# Altium schematic symbol library parallella_schematic_Library.SchLib: 113 symbols (part 1 of 3)
Pins are listed as number, name and electrical type; pins without a type are passive.

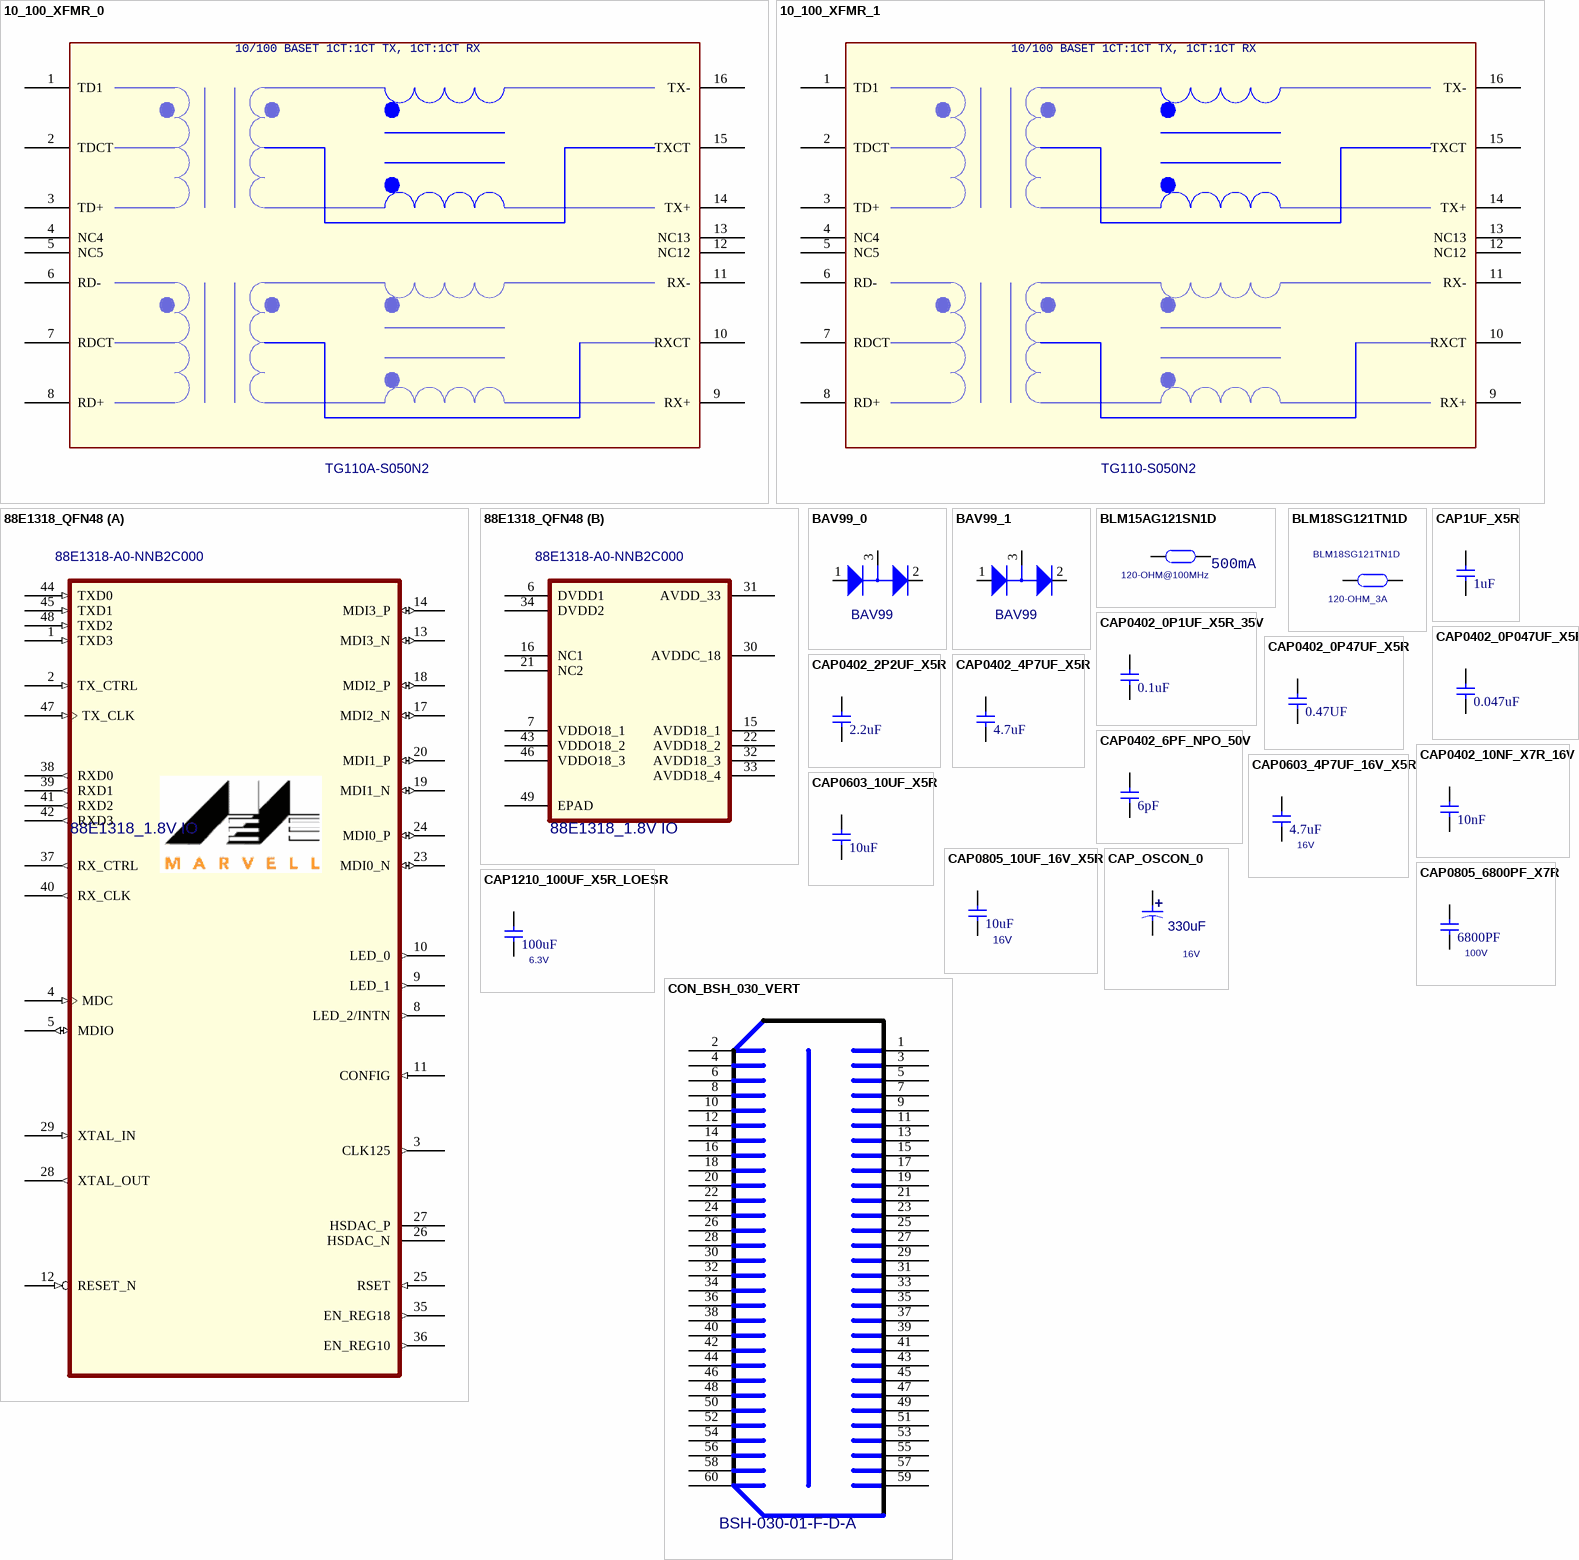
[diagram p0: symbols 10_100_XFMR_0 to CON_BSH_030_VERT]

## 10_100_XFMR_0
designator T?, comment PART_NUMBER: TG110A-S050N2  (hidden comment: 10_100_XFMR_16P)
Mfg Part No: TG110-S050NZ; DEVICE: XFMR-TG110; CLASS: IC; Mfg: HALLO
footprint XFMR16_375_50_SMT
pins: 1 TD1, 2 TDCT, 3 TD+, 4 NC4, 5 NC5, 6 RD-, 7 RDCT, 8 RD+, 9 RX+, 10 RXCT, 11 RX-, 12 NC12, 13 NC13, 14 TX+, 15 TXCT, 16 TX-
text: 10/100 BASET 1CT:1CT TX, 1CT:1CT RX

## 10_100_XFMR_1
designator T?, comment PART_NUMBER: TG110-S050N2  (hidden comment: 10_100_XFMR_16P)
Mfg Part No: TG110-S050NZ; DEVICE: XFMR-TG110; CLASS: IC; Mfg: HALLO
footprint XFMR16_375_50_SMT
pins: 1 TD1, 2 TDCT, 3 TD+, 4 NC4, 5 NC5, 6 RD-, 7 RDCT, 8 RD+, 9 RX+, 10 RXCT, 11 RX-, 12 NC12, 13 NC13, 14 TX+, 15 TXCT, 16 TX-
text: 10/100 BASET 1CT:1CT TX, 1CT:1CT RX

## 88E1318_QFN48
designator U?, comment 88E1318_1.8V IO  Vendor PN: 88E1318-A0-NNB2C000
IC, GIGE PHY, QFN48; DEVICE: 88E1318_QFN48; Vendor: MARVELL
footprint QFN48_7SQXP5PX1MMH_3P1PAD
part A pins: 1 TXD3 (in), 2 TX_CTRL (in), 3 CLK125 (out), 4 MDC (in), 5 MDIO (io), 8 LED_2/INTN (out), 9 LED_1 (out), 10 LED_0 (out), 11 CONFIG (in), 12 RESET_N (in), 13 MDI3_N (io), 14 MDI3_P (io), 17 MDI2_N (io), 18 MDI2_P (io), 19 MDI1_N (io), 20 MDI1_P (io), 23 MDI0_N (io), 24 MDI0_P (io), 25 RSET (in), 26 HSDAC_N, 27 HSDAC_P, 28 XTAL_OUT (out), 29 XTAL_IN (in), 35 EN_REG18 (out), 36 EN_REG10 (out), 37 RX_CTRL (out), 38 RXD0 (out), 39 RXD1 (out), 40 RX_CLK (out), 41 RXD2 (out), 42 RXD3 (out), 44 TXD0 (in), 45 TXD1 (in), 47 TX_CLK (in), 48 TXD2 (in)
part B pins: 6 DVDD1 (power), 7 VDDO18_1 (power), 15 AVDD18_1 (power), 16 NC1, 21 NC2, 22 AVDD18_2 (power), 30 AVDDC_18 (power), 31 AVDD_33 (power), 32 AVDD18_3 (power), 33 AVDD18_4 (power), 34 DVDD2 (power), 43 VDDO18_2 (power), 46 VDDO18_3 (power), 49 EPAD (power)

## BAV99_0
designator D?, comment BAV99
DIODE, SOT-23, BAV99, SM SIGNAL; PART_NUMBER: XXX-XXXXX-XX; MFG: FAIRCHILD; DEVICE: XXX-XXXXX-XX; MFG PART NO: BAV99
footprint SOT23
pins: 1 GND, 2 VDD, 3 SIGNAL

## BAV99_1
designator D?, comment BAV99
DIODE, SOT-23, BAV99, SM SIGNAL; PART_NUMBER: XXX-XXXXX-XX; MFG: FAIRCHILD; DEVICE: XXX-XXXXX-XX; MFG PART NO: BAV99
footprint SOT23
pins: 1 GND, 2 VDD, 3 SIGNAL

## BLM15AG121SN1D
designator FB?, comment 120-OHM@100MHz
FERRITE, BEAD, 0402, 120 OHM@ 100MHZ, 500mA, SMT; Vendor PN: BLM15AG121SN1D; Vendor: MURATA; DEVICE: BLM15AG121SN1D; MFG: MURATA; MFG PART NO: BLM15AG121SN1D
footprint FBEAD_0402
pins: 1, 2
text: 500mA

## BLM18SG121TN1D
designator FB?, comment 120-OHM_3A  Vendor PN: BLM18SG121TN1D
FERRITE, BEAD, FILTER, 0603, 3A; Vendor: MURATA; PCB Footprint: FB0603; DEVICE: BLM18SG121TN1D
footprint BEAD_0603
pins: 1, 2

## CAP1UF_X5R
designator C?, comment 1uF
CAP, 0603, 1UF, X5R, 16V; Vendor PN: C0603C105K4PAC; Vendor: KEMET; DEVICE: CAP0603; MFG PART NO: C0603C105K4PAC; MFG: KEMET
footprint C0603
pins: 1, 2

## CAP0402_0P1UF_X5R_35V
designator C?, comment 0.1uF
CAP, 0402, 0.1UF, X5R, 35V; ALT_SYMBOLS: C0402_BGA; Vendor PN: GMK105BJ104KV-F; Vendor: TAIYO YUDEN; DEVICE: CAP0402_0P1UF_X5R_35V; MFG PART NO: GMK105BJ104KV-F; MFG: TAIYO YUDEN
footprint C0402
pins: 1, 2

## CAP0402_0P047UF_X5R
designator C?, comment 0.047uF
CAP, 0402, 0.047UF, X5R, 25V; MFG PART NO: C1005X5R1E473M; MFG: TDK; DEVICE: CAP0402_0P047UF_X5R; Vendor: TDK; Vendor PN: C1005X5R1E473M
footprint C0402
pins: 1, 2

## CAP0402_0P47UF_X5R
designator C?, comment 0.47UF
CAP, 0402, 0.47UF, X5R, 16V; MFG PART NO: C1005X5R1C474K; MFG: TDK; DEVICE: CAP0402_0P47UF_X5R; ALT_SYMBOLS: C0402_BGA; Vendor: TDK; Vendor PN: C1005X5R1C474K
footprint C0402
pins: 1, 2

## CAP0402_2P2UF_X5R
designator C?, comment 2.2uF
CAP, 0402, 2.2UF, X5R, 6.3V; MFG PART NO: C1005X5R0J225M; DEVICE: CAP0402_2P2UF_X5R; MFG: TDK; ALT_SYMBOLS: C0402_BGA; Vendor: TDK; Vendor PN: C1005X5R0J225M
footprint C0402
pins: 1, 2

## CAP0402_4P7UF_X5R
designator C?, comment 4.7uF
CAP, 0402, 4.7UF, X5R, 6.3V; MFG PART NO: C1005X5R0J475K; DEVICE: CAP0402_4P7UF_X5R; MFG: TDK; ALT_SYMBOLS: C0402_BGA; Vendor: TDK; Vendor PN: C1005X5R0J475K
footprint C0402
pins: 1, 2

## CAP0402_6PF_NPO_50V
designator C?, comment 6pF
CAP, 0402, 6PF, NPO, 50V; ALT_SYMBOLS: C0402_BGA; Vendor PN: C1005COG1H060D050BA; Vendor: TDK; DEVICE: CAP0402_6PF_NPO_50V; MFG PART NO: C1005COG1H060D050BA; MFG: TDK
footprint C0402
pins: 1, 2

## CAP0402_10NF_X7R_16V
designator C?, comment 10nF
CAP, 0402, 10NF, X7R, 16V; MFG PART NO: C1005X7R1C103K; MFG: TDK; ALT_SYMBOLS: C0402_BGA; Vendor: TDK; Vendor PN: C1005X7R1C103K
footprint C0402
pins: 1, 2

## CAP0603_4P7UF_16V_X5R
designator C?, comment 4.7uF  VOLTAGE: 16V
CAP, 0603, 4.7UF, X5R, 16V; MFG PART NO: C1608X5R1C475K080AC; MFG: TDK; DEVICE: CAP0603_4P7UF_16V_X5R; Vendor: TDK; Vendor PN: C1608X5R1C475K080AC
footprint C0603
pins: 1, 2

## CAP0603_10UF_X5R
designator C?, comment 10uF
CAP, 0603, 10UF, X5R, 10V; MFG PART NO: LMK107BJ106MALTD; MFG: TAIYO YUDEN; DEVICE: CAP0603_10UF_X5R; Vendor: TAIYO YUDEN; Vendor PN: LMK107BJ106MALTD
footprint C0603
pins: 1, 2

## CAP0805_10UF_16V_X5R
designator C?, comment 10uF  VOLTAGE: 16V
CAP, 0805, 10UF, X5R, 16V; MFG PART NO: C2012X5R1C106M085AC; DEVICE: CAP0805_10UF_16V_X5R; MFG: TDK; Vendor: TDK; Vendor PN: C2012X5R1C106M085AC
footprint C0805
pins: 1, 2

## CAP0805_6800PF_X7R
designator C?, comment 6800PF  VOLTAGE: 100V
CAP, 0805, 6800PF, X7R, 100V; MFG PART NO: C2012X7R2A682KT5; DEVICE: CAP0805_6800PF_X7R; MFG: TDK; Vendor: TDK; Vendor PN: C2012X7R2A682KT5
footprint C0805
pins: 1, 2

## CAP1210_100UF_X5R_LOESR
designator C?, comment 100uF  VOLTAGE: 6.3V
CAP, 1210, 100UF, X5R, 6.3V, LOW ESR; MFG PART NO: GRM32ER60J107ME20L; DEVICE: CAP1210_100UF_X5R_LOESR; MFG: MURATA; Vendor: MURATA; Vendor PN: GRM32ER60J107ME20L
footprint C1210
pins: 1, 2

## CAP_OSCON_0
designator C?, comment 330uF  Voltage: 16V
CAP, OS-CON, 330UF, 16V, 20%, SMD; MFG PART NO: 16SVP330M; MFG: SANYO; DEVICE: CAP_OSCON_330UF; Tolerance: 20%
footprint CAP_TANTD
pins: 1, 2
text: +

## CON_BSH_030_VERT
designator J?, comment BSH-030-01-F-D-A
Vendor: SAMTEC; DEVICE: CON_BSH_030_VERT; Vendor PN: BSH-030-01-F-D-A
footprint CONN_BSH60P_13P59X25P88_P5P_V
pins: 1 01, 2 02, 3 03, 4 04, 5 05, 6 06, 7 07, 8 08, 9 09, 10, 11, 12, 13, 14, 15, 16, 17, 18, 19, 20, 21, 22, 23, 24, 25, 26, 27, 28, 29, 30, 31, 32, 33, 34, 35, 36, 37, 38, 39, 40, 41, 42, 43, 44, 45, 46, 47, 48, 49, 50, 51, 52, 53, 54, 55, 56, 57, 58, 59, 60

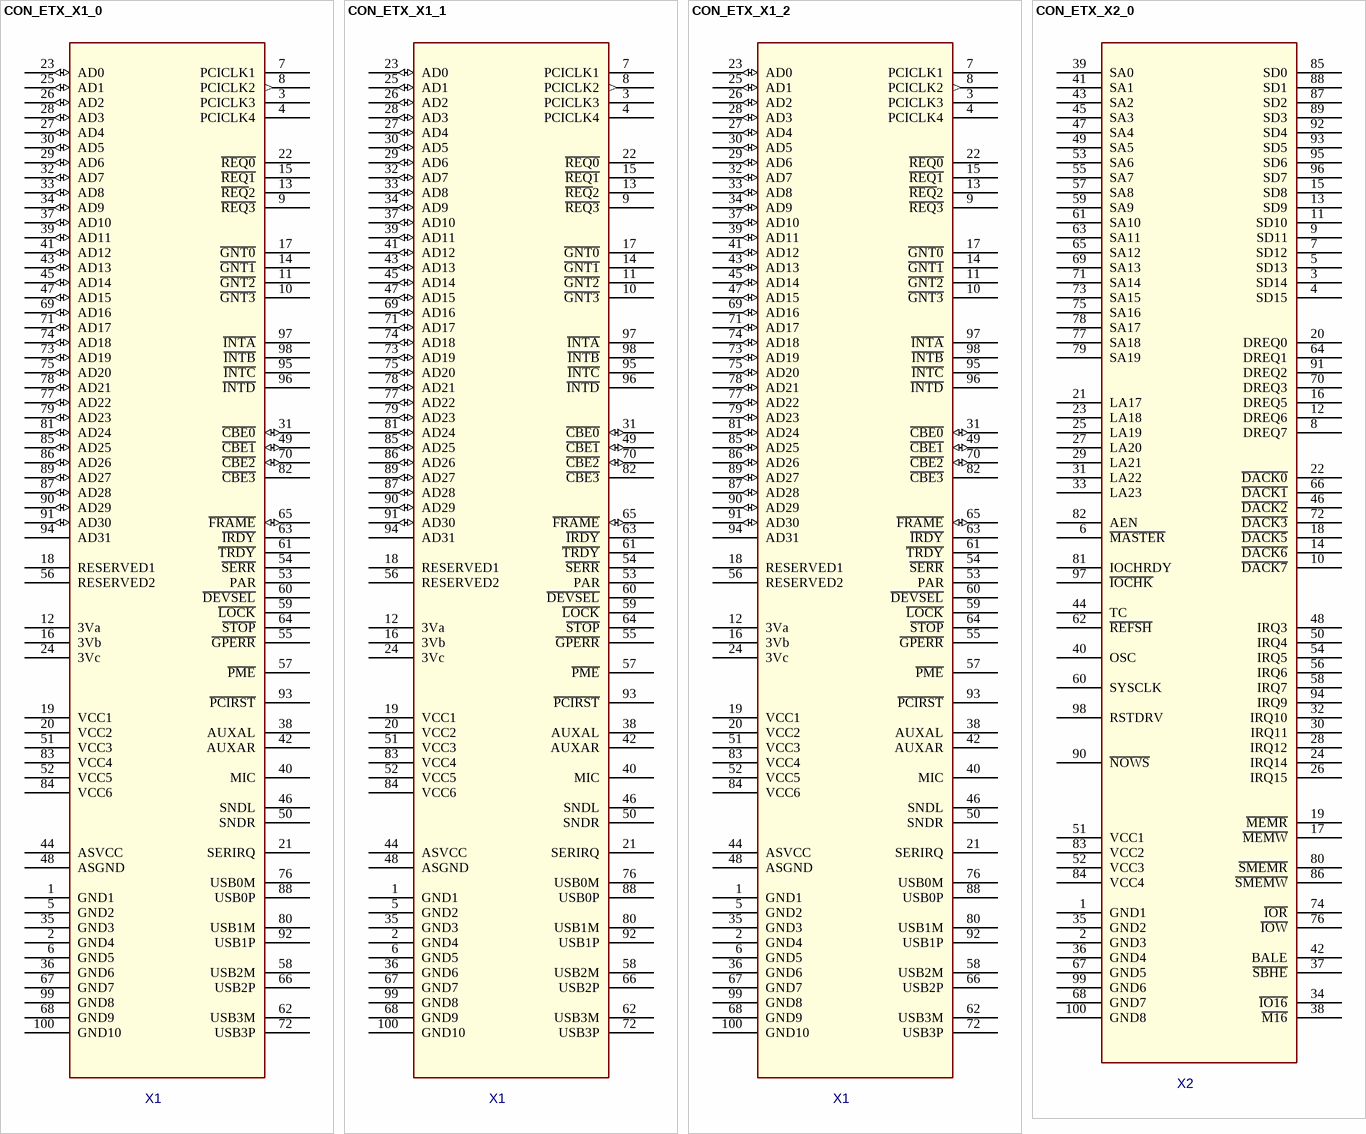
[diagram p1: symbols CON_ETX_X1_0 to CON_ETX_X2_0]

## CON_ETX_X1_0
designator P?, comment X1
CONN, 100POS STACK FEM 0.6MM; Part Number: 2101188A; MFG PART NO: FX8-100S-SV; MFG: HIROSE; DEVICE: CN000231; PART_NUMBER: CN000231
footprint conn_2x50_224_23p6
pins: 1 GND1 (power), 2 GND4 (power), 3 PCICLK3, 4 PCICLK4, 5 GND2 (power), 6 GND5 (power), 7 PCICLK1, 8 PCICLK2 (out), 9 ~{REQ3}, 10 ~{GNT3}, 11 ~{GNT2}, 12 3Va (power), 13 ~{REQ}2, 14 ~{GNT1}, 15 ~{REQ1}, 16 3Vb (power), 17 ~{GNT0}, 18 RESERVED1, 19 VCC1 (power), 20 VCC2 (power), 21 SERIRQ, 22 ~{REQ0}, 23 AD0 (io), 24 3Vc (power), 25 AD1 (io), 26 AD2 (io), 27 AD4 (io), 28 AD3 (io), 29 AD6 (io), 30 AD5 (io), 31 ~{CBE0} (io), 32 AD7 (io), 33 AD8 (io), 34 AD9 (io), 35 GND3 (power), 36 GND6 (power), 37 AD10 (io), 38 AUXAL, 39 AD11 (io), 40 MIC, 41 AD12 (io), 42 AUXAR, 43 AD13 (io), 44 ASVCC, 45 AD14 (io), 46 SNDL, 47 AD15 (io), 48 ASGND, 49 ~{CBE1} (io), 50 SNDR, 51 VCC3 (power), 52 VCC5 (power), 53 PAR, 54 ~{SERR}, 55 ~{GPERR}, 56 RESERVED2, 57 ~{PME}, 58 USB2M, 59 ~{LOCK}, 60 ~{DEVSEL}, 61 ~{TRDY}, 62 USB3M, 63 ~{IRDY}, 64 ~{STOP}, 65 ~{FRAME} (io), 66 USB2P, 67 GND7 (power), 68 GND9 (power), 69 AD16 (io), 70 ~{CBE2} (io), 71 AD17 (io), 72 USB3P, 73 AD19 (io), 74 AD18 (io), 75 AD20 (io), 76 USB0M, 77 AD22 (io), 78 AD21 (io), 79 AD23 (io), 80 USB1M, 81 AD24 (io), 82 ~{CBE3}, 83 VCC4 (power), 84 VCC6 (power), 85 AD25 (io), 86 AD26 (io), 87 AD28 (io), 88 USB0P, 89 AD27 (io), 90 AD29 (io), 91 AD30 (io), 92 USB1P, 93 ~{PCIRST}, 94 AD31, 95 ~{INTC}, 96 ~{INTD}, 97 ~{INTA}, 98 ~{INTB}, 99 GND8 (power), 100 GND10 (power)

## CON_ETX_X1_1
designator P?, comment X1
CONN, 100POS STACK FEM 0.6MM; Part Number: 2101188A; MFG PART NO: FX8-100S-SV; MFG: HIROSE; DEVICE: CN000231; PART_NUMBER: CN000231
footprint conn_2x50_224_23p6
pins: 1 GND1 (power), 2 GND4 (power), 3 PCICLK3, 4 PCICLK4, 5 GND2 (power), 6 GND5 (power), 7 PCICLK1, 8 PCICLK2 (out), 9 ~{REQ3}, 10 ~{GNT3}, 11 ~{GNT2}, 12 3Va (power), 13 ~{REQ}2, 14 ~{GNT1}, 15 ~{REQ1}, 16 3Vb (power), 17 ~{GNT0}, 18 RESERVED1, 19 VCC1 (power), 20 VCC2 (power), 21 SERIRQ, 22 ~{REQ0}, 23 AD0 (io), 24 3Vc (power), 25 AD1 (io), 26 AD2 (io), 27 AD4 (io), 28 AD3 (io), 29 AD6 (io), 30 AD5 (io), 31 ~{CBE0} (io), 32 AD7 (io), 33 AD8 (io), 34 AD9 (io), 35 GND3 (power), 36 GND6 (power), 37 AD10 (io), 38 AUXAL, 39 AD11 (io), 40 MIC, 41 AD12 (io), 42 AUXAR, 43 AD13 (io), 44 ASVCC, 45 AD14 (io), 46 SNDL, 47 AD15 (io), 48 ASGND, 49 ~{CBE1} (io), 50 SNDR, 51 VCC3 (power), 52 VCC5 (power), 53 PAR, 54 ~{SERR}, 55 ~{GPERR}, 56 RESERVED2, 57 ~{PME}, 58 USB2M, 59 ~{LOCK}, 60 ~{DEVSEL}, 61 ~{TRDY}, 62 USB3M, 63 ~{IRDY}, 64 ~{STOP}, 65 ~{FRAME} (io), 66 USB2P, 67 GND7 (power), 68 GND9 (power), 69 AD16 (io), 70 ~{CBE2} (io), 71 AD17 (io), 72 USB3P, 73 AD19 (io), 74 AD18 (io), 75 AD20 (io), 76 USB0M, 77 AD22 (io), 78 AD21 (io), 79 AD23 (io), 80 USB1M, 81 AD24 (io), 82 ~{CBE3}, 83 VCC4 (power), 84 VCC6 (power), 85 AD25 (io), 86 AD26 (io), 87 AD28 (io), 88 USB0P, 89 AD27 (io), 90 AD29 (io), 91 AD30 (io), 92 USB1P, 93 ~{PCIRST}, 94 AD31, 95 ~{INTC}, 96 ~{INTD}, 97 ~{INTA}, 98 ~{INTB}, 99 GND8 (power), 100 GND10 (power)

## CON_ETX_X1_2
designator P?, comment X1
CONN, 100POS STACK FEM 0.6MM; MFG PART NO: FX8-100S-SV; MFG: HIROSE; DEVICE: CN000231; PART_NUMBER: CN000231
footprint conn_2x50_224_23p6
pins: 1 GND1 (power), 2 GND4 (power), 3 PCICLK3, 4 PCICLK4, 5 GND2 (power), 6 GND5 (power), 7 PCICLK1, 8 PCICLK2 (out), 9 ~{REQ3}, 10 ~{GNT3}, 11 ~{GNT2}, 12 3Va (power), 13 ~{REQ}2, 14 ~{GNT1}, 15 ~{REQ1}, 16 3Vb (power), 17 ~{GNT0}, 18 RESERVED1, 19 VCC1 (power), 20 VCC2 (power), 21 SERIRQ, 22 ~{REQ0}, 23 AD0 (io), 24 3Vc (power), 25 AD1 (io), 26 AD2 (io), 27 AD4 (io), 28 AD3 (io), 29 AD6 (io), 30 AD5 (io), 31 ~{CBE0} (io), 32 AD7 (io), 33 AD8 (io), 34 AD9 (io), 35 GND3 (power), 36 GND6 (power), 37 AD10 (io), 38 AUXAL, 39 AD11 (io), 40 MIC, 41 AD12 (io), 42 AUXAR, 43 AD13 (io), 44 ASVCC, 45 AD14 (io), 46 SNDL, 47 AD15 (io), 48 ASGND, 49 ~{CBE1} (io), 50 SNDR, 51 VCC3 (power), 52 VCC5 (power), 53 PAR, 54 ~{SERR}, 55 ~{GPERR}, 56 RESERVED2, 57 ~{PME}, 58 USB2M, 59 ~{LOCK}, 60 ~{DEVSEL}, 61 ~{TRDY}, 62 USB3M, 63 ~{IRDY}, 64 ~{STOP}, 65 ~{FRAME} (io), 66 USB2P, 67 GND7 (power), 68 GND9 (power), 69 AD16 (io), 70 ~{CBE2} (io), 71 AD17 (io), 72 USB3P, 73 AD19 (io), 74 AD18 (io), 75 AD20 (io), 76 USB0M, 77 AD22 (io), 78 AD21 (io), 79 AD23 (io), 80 USB1M, 81 AD24 (io), 82 ~{CBE3}, 83 VCC4 (power), 84 VCC6 (power), 85 AD25 (io), 86 AD26 (io), 87 AD28 (io), 88 USB0P, 89 AD27 (io), 90 AD29 (io), 91 AD30 (io), 92 USB1P, 93 ~{PCIRST}, 94 AD31, 95 ~{INTC}, 96 ~{INTD}, 97 ~{INTA}, 98 ~{INTB}, 99 GND8 (power), 100 GND10 (power)

## CON_ETX_X2_0
designator P?, comment X2
CONN, 100POS STACK FEM 0.6MM; Part Number: xxxxx; MFG PART NO: FX8-100S-SV; MFG: HIROSE
footprint CON_FX8-100S
pins: 1 GND1 (power), 2 GND3 (power), 3 SD14, 4 SD15, 5 SD13, 6 ~{MASTER}, 7 SD12, 8 DREQ7, 9 SD11, 10 ~{DACK7}, 11 SD10, 12 DREQ6, 13 SD9, 14 ~{DACK6}, 15 SD8, 16 DREQ5, 17 ~{MEMW}, 18 ~{DACK5}, 19 ~{MEMR}, 20 DREQ0, 21 LA17, 22 ~{DACK0}, 23 LA18, 24 IRQ14, 25 LA19, 26 IRQ15, 27 LA20, 28 IRQ12, 29 LA21, 30 IRQ11, 31 LA22, 32 IRQ10, 33 LA23, 34 ~{IO16}, 35 GND2 (power), 36 GND4 (power), 37 ~{SBHE}, 38 ~{M16}, 39 SA0, 40 OSC, 41 SA1, 42 BALE, 43 SA2, 44 TC, 45 SA3, 46 ~{DACK2}, 47 SA4, 48 IRQ3, 49 SA5, 50 IRQ4, 51 VCC1 (power), 52 VCC3 (power), 53 SA6, 54 IRQ5, 55 SA7, 56 IRQ6, 57 SA8, 58 IRQ7, 59 SA9, 60 SYSCLK, 61 SA10, 62 ~{REFSH}, 63 SA11, 64 DREQ1, 65 SA12, 66 ~{DACK1}, 67 GND5 (power), 68 GND7 (power), 69 SA13, 70 DREQ3, 71 SA14, 72 ~{DACK3}, 73 SA15, 74 ~{IOR}, 75 SA16, 76 ~{IOW}, 77 SA18, 78 SA17, 79 SA19, 80 ~{SMEMR}, 81 IOCHRDY, 82 AEN, 83 VCC2 (power), 84 VCC4 (power), 85 SD0, 86 ~{SMEMW}, 87 SD2, 88 SD1, 89 SD3, 90 ~{NOWS}, 91 DREQ2, 92 SD4, 93 SD5, 94 IRQ9, 95 SD6, 96 SD7, 97 ~{IOCHK}, 98 RSTDRV, 99 GND6 (power), 100 GND8 (power)

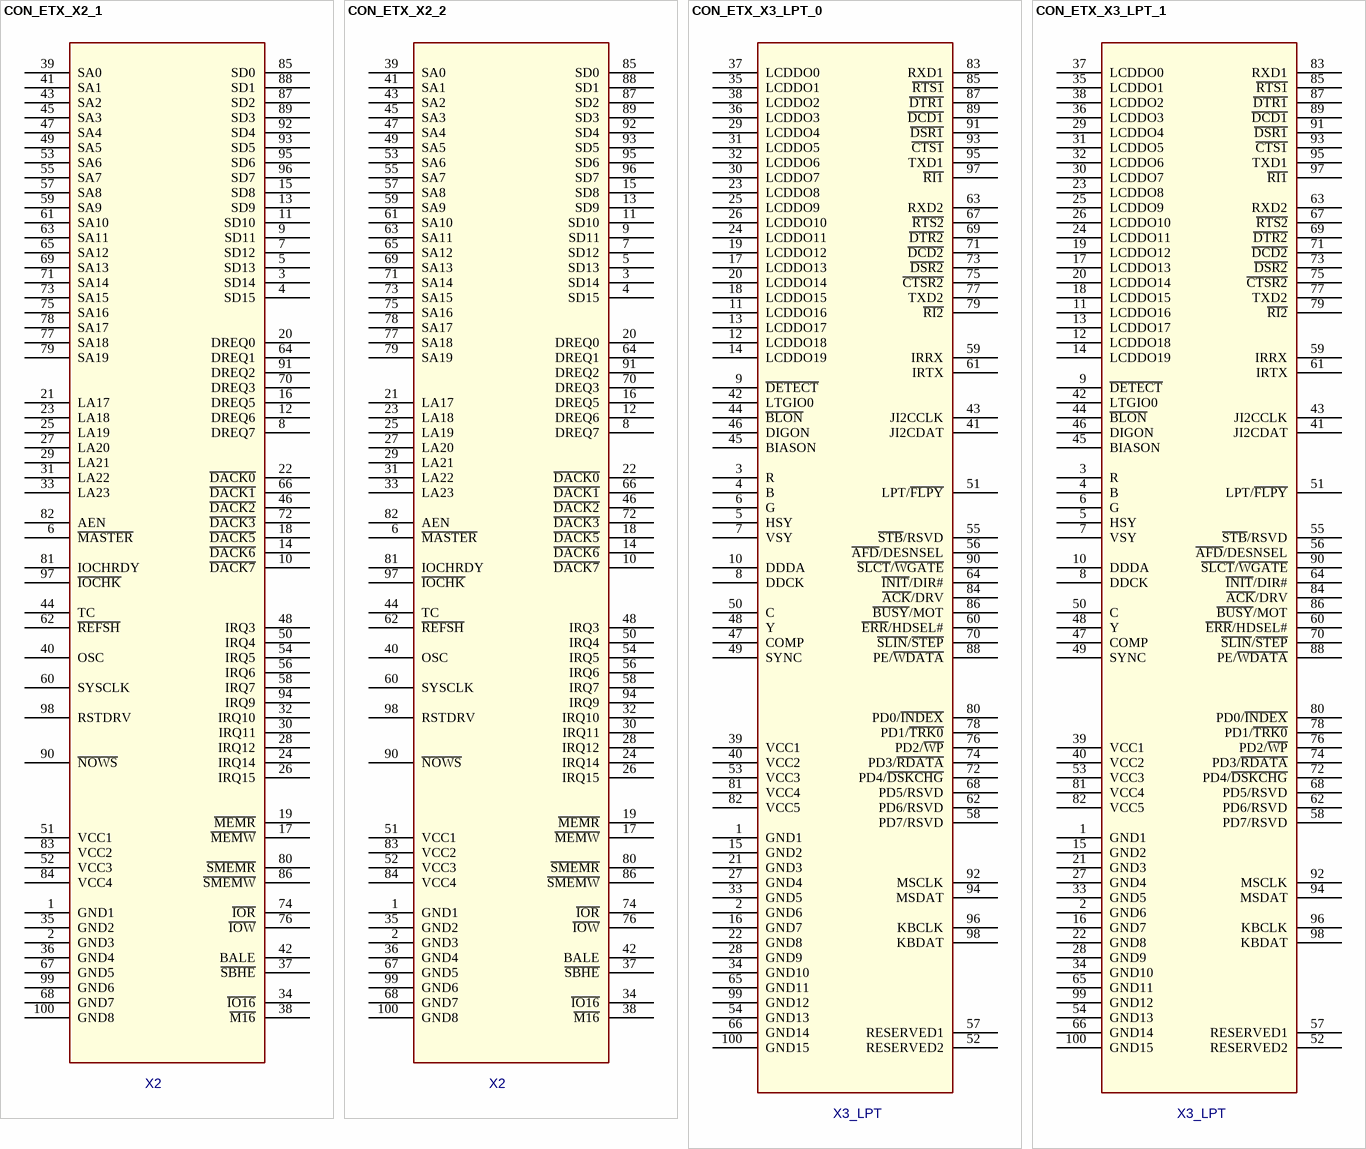
[diagram p2: symbols CON_ETX_X2_1 to CON_ETX_X3_LPT_1]

## CON_ETX_X2_1
designator P?, comment X2
CONN, 100POS STACK FEM 0.6MM; MFG PART NO: FX8-100S-SV; MFG: HIROSE; DEVICE: CN000231; PART_NUMBER: CN000231
footprint conn_2x50_224_23p6
pins: 1 GND1 (power), 2 GND3 (power), 3 SD14, 4 SD15, 5 SD13, 6 ~{MASTER}, 7 SD12, 8 DREQ7, 9 SD11, 10 ~{DACK7}, 11 SD10, 12 DREQ6, 13 SD9, 14 ~{DACK6}, 15 SD8, 16 DREQ5, 17 ~{MEMW}, 18 ~{DACK5}, 19 ~{MEMR}, 20 DREQ0, 21 LA17, 22 ~{DACK0}, 23 LA18, 24 IRQ14, 25 LA19, 26 IRQ15, 27 LA20, 28 IRQ12, 29 LA21, 30 IRQ11, 31 LA22, 32 IRQ10, 33 LA23, 34 ~{IO16}, 35 GND2 (power), 36 GND4 (power), 37 ~{SBHE}, 38 ~{M16}, 39 SA0, 40 OSC, 41 SA1, 42 BALE, 43 SA2, 44 TC, 45 SA3, 46 ~{DACK2}, 47 SA4, 48 IRQ3, 49 SA5, 50 IRQ4, 51 VCC1 (power), 52 VCC3 (power), 53 SA6, 54 IRQ5, 55 SA7, 56 IRQ6, 57 SA8, 58 IRQ7, 59 SA9, 60 SYSCLK, 61 SA10, 62 ~{REFSH}, 63 SA11, 64 DREQ1, 65 SA12, 66 ~{DACK1}, 67 GND5 (power), 68 GND7 (power), 69 SA13, 70 DREQ3, 71 SA14, 72 ~{DACK3}, 73 SA15, 74 ~{IOR}, 75 SA16, 76 ~{IOW}, 77 SA18, 78 SA17, 79 SA19, 80 ~{SMEMR}, 81 IOCHRDY, 82 AEN, 83 VCC2 (power), 84 VCC4 (power), 85 SD0, 86 ~{SMEMW}, 87 SD2, 88 SD1, 89 SD3, 90 ~{NOWS}, 91 DREQ2, 92 SD4, 93 SD5, 94 IRQ9, 95 SD6, 96 SD7, 97 ~{IOCHK}, 98 RSTDRV, 99 GND6 (power), 100 GND8 (power)

## CON_ETX_X2_2
designator P?, comment X2
CONN, 100POS STACK FEM 0.6MM; MFG PART NO: FX8-100S-SV; MFG: HIROSE; DEVICE: CN000231; PART_NUMBER: CN000231
footprint conn_2x50_224_23p6
pins: 1 GND1 (power), 2 GND3 (power), 3 SD14, 4 SD15, 5 SD13, 6 ~{MASTER}, 7 SD12, 8 DREQ7, 9 SD11, 10 ~{DACK7}, 11 SD10, 12 DREQ6, 13 SD9, 14 ~{DACK6}, 15 SD8, 16 DREQ5, 17 ~{MEMW}, 18 ~{DACK5}, 19 ~{MEMR}, 20 DREQ0, 21 LA17, 22 ~{DACK0}, 23 LA18, 24 IRQ14, 25 LA19, 26 IRQ15, 27 LA20, 28 IRQ12, 29 LA21, 30 IRQ11, 31 LA22, 32 IRQ10, 33 LA23, 34 ~{IO16}, 35 GND2 (power), 36 GND4 (power), 37 ~{SBHE}, 38 ~{M16}, 39 SA0, 40 OSC, 41 SA1, 42 BALE, 43 SA2, 44 TC, 45 SA3, 46 ~{DACK2}, 47 SA4, 48 IRQ3, 49 SA5, 50 IRQ4, 51 VCC1 (power), 52 VCC3 (power), 53 SA6, 54 IRQ5, 55 SA7, 56 IRQ6, 57 SA8, 58 IRQ7, 59 SA9, 60 SYSCLK, 61 SA10, 62 ~{REFSH}, 63 SA11, 64 DREQ1, 65 SA12, 66 ~{DACK1}, 67 GND5 (power), 68 GND7 (power), 69 SA13, 70 DREQ3, 71 SA14, 72 ~{DACK3}, 73 SA15, 74 ~{IOR}, 75 SA16, 76 ~{IOW}, 77 SA18, 78 SA17, 79 SA19, 80 ~{SMEMR}, 81 IOCHRDY, 82 AEN, 83 VCC2 (power), 84 VCC4 (power), 85 SD0, 86 ~{SMEMW}, 87 SD2, 88 SD1, 89 SD3, 90 ~{NOWS}, 91 DREQ2, 92 SD4, 93 SD5, 94 IRQ9, 95 SD6, 96 SD7, 97 ~{IOCHK}, 98 RSTDRV, 99 GND6 (power), 100 GND8 (power)

## CON_ETX_X3_LPT_0
designator P?, comment X3_LPT
CONN, 100POS STACK FEM 0.6MM; MFG PART NO: FX8-100S-SV; MFG: HIROSE; DEVICE: CN000231; PART_NUMBER: CN000231
footprint conn_2x50_224_23p6
pins: 1 GND1 (power), 2 GND6 (power), 3 R, 4 B, 5 HSY, 6 G, 7 VSY, 8 DDCK, 9 ~{DETECT}, 10 DDDA, 11 LCDDO16, 12 LCDDO18, 13 LCDDO17, 14 LCDDO19, 15 GND2 (power), 16 GND7 (power), 17 LCDDO13, 18 LCDDO15, 19 LCDDO12, 20 LCDDO14, 21 GND3 (power), 22 GND8 (power), 23 LCDDO8, 24 LCDDO11, 25 LCDDO9, 26 LCDDO10, 27 GND4 (power), 28 GND9 (power), 29 LCDDO4, 30 LCDDO7, 31 LCDDO5, 32 LCDDO6, 33 GND5 (power), 34 GND10 (power), 35 LCDDO1, 36 LCDDO3, 37 LCDDO0, 38 LCDDO2, 39 VCC1 (power), 40 VCC2 (power), 41 JI2CDAT, 42 LTGIO0, 43 JI2CCLK, 44 ~{BLON}, 45 BIASON, 46 DIGON, 47 COMP, 48 Y, 49 SYNC, 50 C, 51 LPT/~{FLPY}, 52 RESERVED2, 53 VCC3 (power), 54 GND13 (power), 55 ~{STB}/RSVD, 56 ~{AFD}/DESNSEL, 57 RESERVED1, 58 PD7/RSVD, 59 IRRX, 60 ~{ERR}/HDSEL#, 61 IRTX, 62 PD6/RSVD, 63 RXD2, 64 ~{INIT}/DIR#, 65 GND11 (power), 66 GND14 (power), 67 ~{RTS2}, 68 PD5/RSVD, 69 ~{DTR2}, 70 ~{SLIN}/~{STEP}, 71 ~{DCD2}, 72 PD4/~{DSKCHG}, 73 ~{DSR2}, 74 PD3/~{RDATA}, 75 ~{CTSR2}, 76 PD2/~{WP}, 77 TXD2, 78 PD1/~{TRK0}, 79 ~{RI2}, 80 PD0/~{INDEX}, 81 VCC4 (power), 82 VCC5 (power), 83 RXD1, 84 ~{ACK}/DRV, 85 ~{RTS1}, 86 ~{BUSY}/MOT, 87 ~{DTR1}, 88 PE/~{WDATA}, 89 ~{DCD1}, 90 ~{SLCT}/~{WGATE}, 91 ~{DSR1}, 92 MSCLK, 93 ~{CTS1}, 94 MSDAT, 95 TXD1, 96 KBCLK, 97 ~{RI1}, 98 KBDAT, 99 GND12 (power), 100 GND15 (power)

## CON_ETX_X3_LPT_1
designator P?, comment X3_LPT
CONN, 100POS STACK FEM 0.6MM; MFG PART NO: FX8-100S-SV; MFG: HIROSE; DEVICE: CN000231; PART_NUMBER: CN000231
footprint conn_2x50_224_23p6
pins: 1 GND1 (power), 2 GND6 (power), 3 R, 4 B, 5 HSY, 6 G, 7 VSY, 8 DDCK, 9 ~{DETECT}, 10 DDDA, 11 LCDDO16, 12 LCDDO18, 13 LCDDO17, 14 LCDDO19, 15 GND2 (power), 16 GND7 (power), 17 LCDDO13, 18 LCDDO15, 19 LCDDO12, 20 LCDDO14, 21 GND3 (power), 22 GND8 (power), 23 LCDDO8, 24 LCDDO11, 25 LCDDO9, 26 LCDDO10, 27 GND4 (power), 28 GND9 (power), 29 LCDDO4, 30 LCDDO7, 31 LCDDO5, 32 LCDDO6, 33 GND5 (power), 34 GND10 (power), 35 LCDDO1, 36 LCDDO3, 37 LCDDO0, 38 LCDDO2, 39 VCC1 (power), 40 VCC2 (power), 41 JI2CDAT, 42 LTGIO0, 43 JI2CCLK, 44 ~{BLON}, 45 BIASON, 46 DIGON, 47 COMP, 48 Y, 49 SYNC, 50 C, 51 LPT/~{FLPY}, 52 RESERVED2, 53 VCC3 (power), 54 GND13 (power), 55 ~{STB}/RSVD, 56 ~{AFD}/DESNSEL, 57 RESERVED1, 58 PD7/RSVD, 59 IRRX, 60 ~{ERR}/HDSEL#, 61 IRTX, 62 PD6/RSVD, 63 RXD2, 64 ~{INIT}/DIR#, 65 GND11 (power), 66 GND14 (power), 67 ~{RTS2}, 68 PD5/RSVD, 69 ~{DTR2}, 70 ~{SLIN}/~{STEP}, 71 ~{DCD2}, 72 PD4/~{DSKCHG}, 73 ~{DSR2}, 74 PD3/~{RDATA}, 75 ~{CTSR2}, 76 PD2/~{WP}, 77 TXD2, 78 PD1/~{TRK0}, 79 ~{RI2}, 80 PD0/~{INDEX}, 81 VCC4 (power), 82 VCC5 (power), 83 RXD1, 84 ~{ACK}/DRV, 85 ~{RTS1}, 86 ~{BUSY}/MOT, 87 ~{DTR1}, 88 PE/~{WDATA}, 89 ~{DCD1}, 90 ~{SLCT}/~{WGATE}, 91 ~{DSR1}, 92 MSCLK, 93 ~{CTS1}, 94 MSDAT, 95 TXD1, 96 KBCLK, 97 ~{RI1}, 98 KBDAT, 99 GND12 (power), 100 GND15 (power)

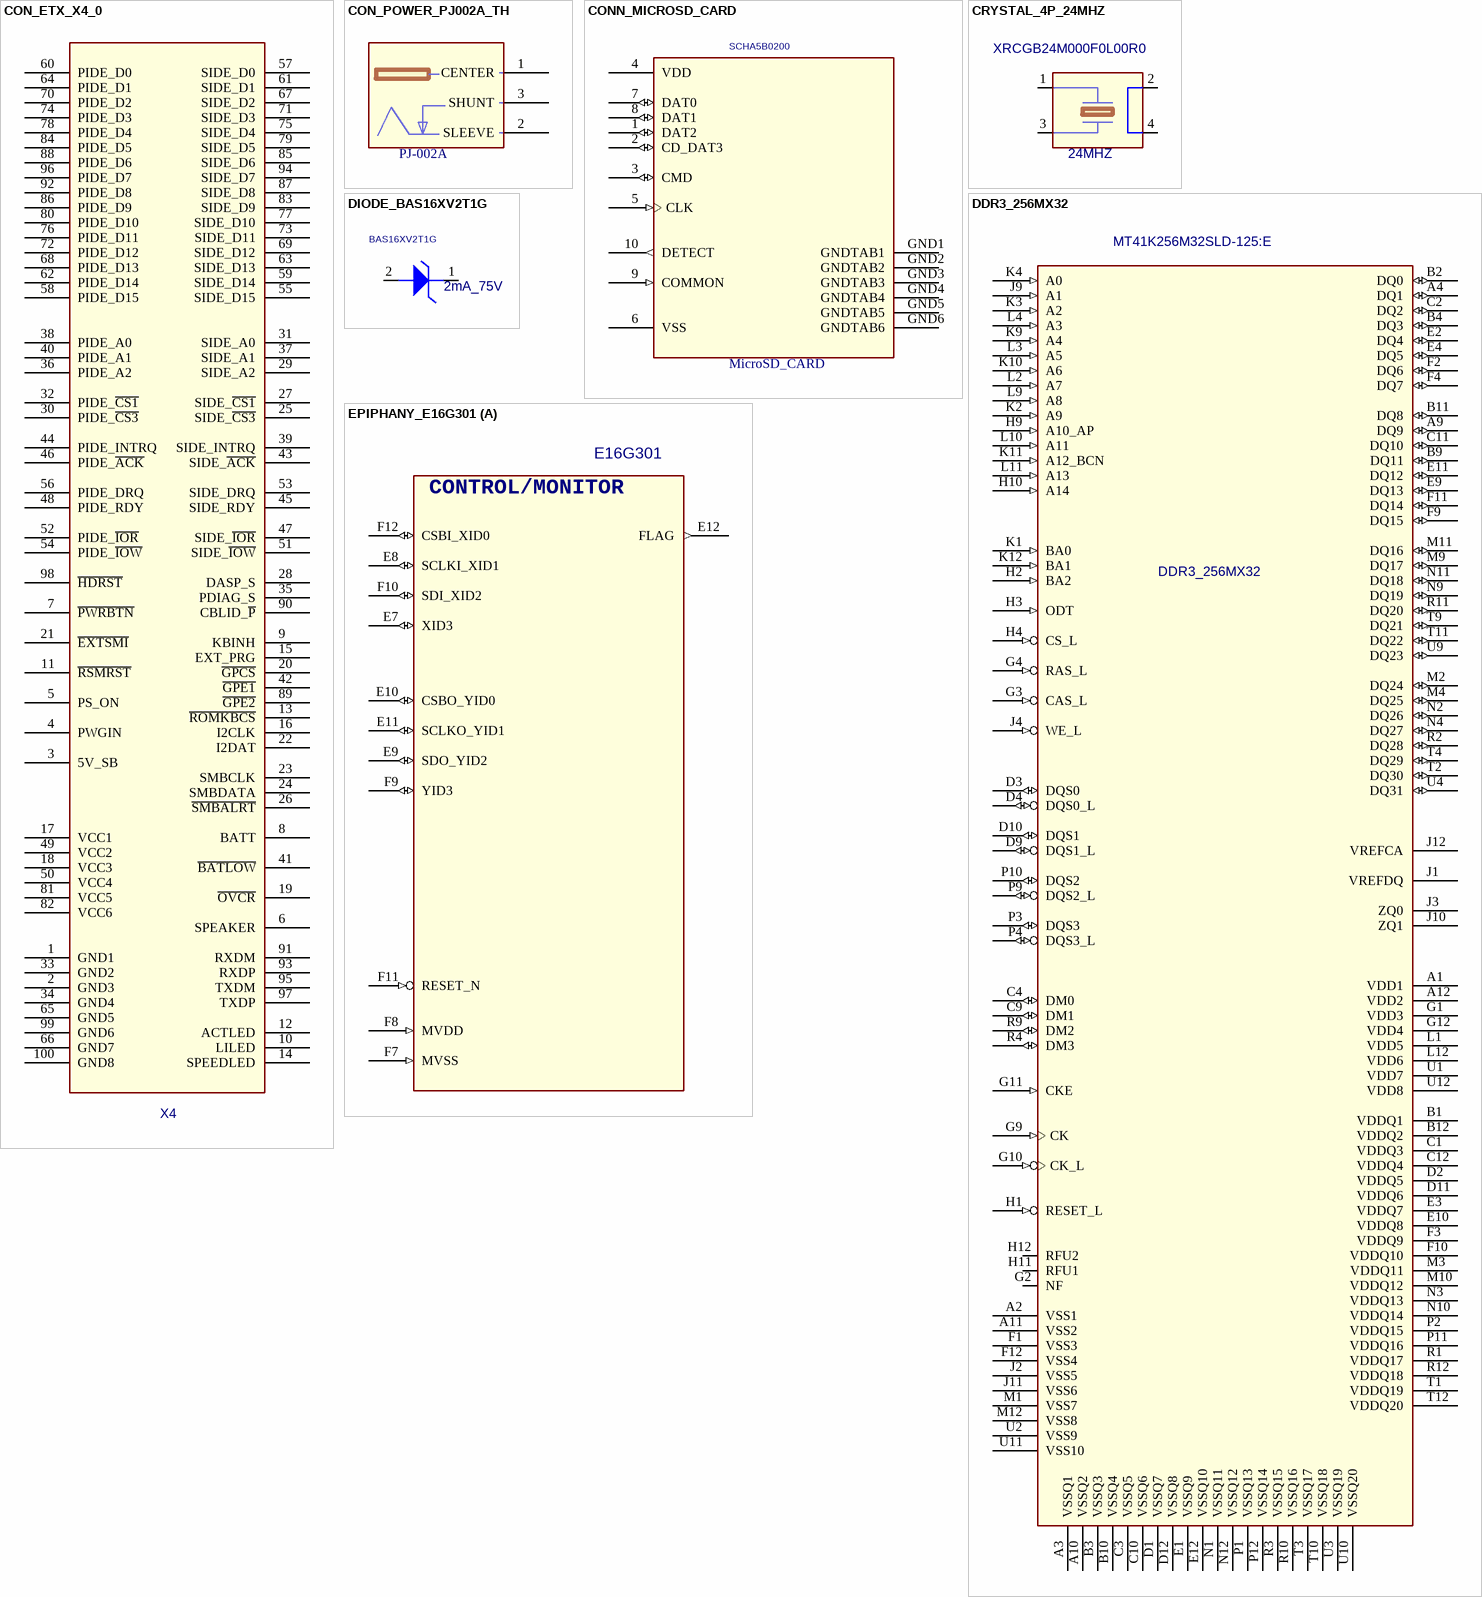
[diagram p3: symbols CON_ETX_X4_0 to EPIPHANY_E16G301]

## CON_ETX_X4_0
designator P?, comment X4
CONN, 100POS STACK FEM 0.6MM; MFG PART NO: FX8-100S-SV; MFG: HIROSE; DEVICE: CN000231; PART_NUMBER: CN000231
footprint conn_2x50_224_23p6
pins: 1 GND1 (power), 2 GND3 (power), 3 5V_SB, 4 PWGIN, 5 PS_ON, 6 SPEAKER, 7 ~{PWRBTN}, 8 BATT, 9 KBINH, 10 LILED, 11 ~{RSMRST}, 12 ACTLED, 13 ~{ROMKBCS}, 14 SPEEDLED, 15 EXT_PRG, 16 I2CLK, 17 VCC1 (power), 18 VCC3 (power), 19 ~{OVCR}, 20 ~{GPCS}, 21 ~{EXTSMI}, 22 I2DAT, 23 SMBCLK, 24 SMBDATA, 25 SIDE_~{CS3}, 26 ~{SMBALRT}, 27 SIDE_~{CS1}, 28 DASP_S, 29 SIDE_A2, 30 PIDE_~{CS3}, 31 SIDE_A0, 32 PIDE_~{CS1}, 33 GND2 (power), 34 GND4 (power), 35 PDIAG_S, 36 PIDE_A2, 37 SIDE_A1, 38 PIDE_A0, 39 SIDE_INTRQ, 40 PIDE_A1, 41 ~{BATLOW}, 42 ~{GPE1}, 43 SIDE_~{ACK}, 44 PIDE_INTRQ, 45 SIDE_RDY, 46 PIDE_~{ACK}, 47 SIDE_~{IOR}, 48 PIDE_RDY, 49 VCC2 (power), 50 VCC4 (power), 51 SIDE_~{IOW}, 52 PIDE_~{IOR}, 53 SIDE_DRQ, 54 PIDE_~{IOW}, 55 SIDE_D15, 56 PIDE_DRQ, 57 SIDE_D0, 58 PIDE_D15, 59 SIDE_D14, 60 PIDE_D0, 61 SIDE_D1, 62 PIDE_D14, 63 SIDE_D13, 64 PIDE_D1, 65 GND5 (power), 66 GND7 (power), 67 SIDE_D2, 68 PIDE_D13, 69 SIDE_D12, 70 PIDE_D2, 71 SIDE_D3, 72 PIDE_D12, 73 SIDE_D11, 74 PIDE_D3, 75 SIDE_D4, 76 PIDE_D11, 77 SIDE_D10, 78 PIDE_D4, 79 SIDE_D5, 80 PIDE_D10, 81 VCC5 (power), 82 VCC6 (power), 83 SIDE_D9, 84 PIDE_D5, 85 SIDE_D6, 86 PIDE_D9, 87 SIDE_D8, 88 PIDE_D6, 89 ~{GPE2}, 90 CBLID_~{P}, 91 RXDM, 92 PIDE_D8, 93 RXDP, 94 SIDE_D7, 95 TXDM, 96 PIDE_D7, 97 TXDP, 98 ~{HDRST}, 99 GND6 (power), 100 GND8 (power)

## CON_POWER_PJ002A_TH
designator J?, comment PJ-002A
CON, PWR, BARREL, PCB, PJ002A_TH; DEVICE: CON_POWER_PJ002A_TH; Vendor: CUI; Vendor PN: PJ-002A
footprint DC_PWR_JCK_9X14P4X11MMH
pins: 1 CENTER, 2 SLEEVE, 3 SHUNT

## CONN_MICROSD_CARD
designator J?, comment MicroSD_CARD  Vendor PN: SCHA5B0200
CONN, MICRO SD CARD, PUSH-PUSH; Vendor: ALPS; DEVICE: CONN_MICROSD_CARD; MFG_PN: SCHA5B0200; MFG: ALPS
footprint SDMICRO_8PIN_REV_15SQX1P51MMH
pins: 1 DAT2 (io), 2 CD_DAT3 (io), 3 CMD (io), 4 VDD (power), 5 CLK (in), 6 VSS (power), 7 DAT0 (io), 8 DAT1 (io), 9 COMMON (in), 10 DETECT (out), GND1 GNDTAB1 (power), GND2 GNDTAB2 (power), GND3 GNDTAB3 (power), GND4 GNDTAB4 (power), GND5 GNDTAB5 (power), GND6 GNDTAB6

## CRYSTAL_4P_24MHZ
designator Y?, comment 24MHZ  Vendor PN: XRCGB24M000F0L00R0
XTAL, 2X1.6MM, 24MHZ, 4PIN, SMT; DEVICE: CRYSTAL_4P_24MHZ; Vendor: MURATA
footprint OSC4_1P6X2X7MMH
pins: 1, 2, 3, 4

## DDR3_256MX32
designator U?  Vendor PN: MT41K256M32SLD-125:E
IC, DDR3, 8Gb, 256M32, BGA136; Vendor: MICRON; DEVICE: DDR3_256MX32
footprint FBGA136_11X14X1P1_P8MMP
pins: A1 VDD1 (power), A2 VSS1 (power), A3 VSSQ1 (power), A4 DQ1 (io), A9 DQ9 (io), A10 VSSQ2 (power), A11 VSS2 (power), A12 VDD2 (power), B1 VDDQ1 (power), B2 DQ0 (io), B3 VSSQ3 (power), B4 DQ3 (io), B9 DQ11 (io), B10 VSSQ4 (power), B11 DQ8 (io), B12 VDDQ2 (power), C1 VDDQ3 (power), C2 DQ2 (io), C3 VSSQ5 (power), C4 DM0 (io), C9 DM1 (io), C10 VSSQ6 (power), C11 DQ10 (io), C12 VDDQ4 (power), D1 VSSQ7 (power), D2 VDDQ5 (power), D3 DQS0 (io), D4 DQS0_L (io), D9 DQS1_L (io), D10 DQS1 (io), D11 VDDQ6 (power), D12 VSSQ8 (power), E1 VSSQ9 (power), E2 DQ4 (io), E3 VDDQ7 (power), E4 DQ5 (io), E9 DQ13 (io), E10 VDDQ8 (power), E11 DQ12 (io), E12 VSSQ10 (power), F1 VSS3 (power), F2 DQ6 (io), F3 VDDQ9 (power), F4 DQ7 (io), F9 DQ15 (io), F10 VDDQ10 (power), F11 DQ14 (io), F12 VSS4 (power), G1 VDD3 (power), G2 NF, G3 CAS_L (in), G4 RAS_L (in), G9 CK (in), G10 CK_L (in), G11 CKE (in), G12 VDD4 (power), H1 RESET_L (in), H2 BA2 (in), H3 ODT (in), H4 CS_L (in), H9 A10_AP (in), H10 A14 (in), H11 RFU1, H12 RFU2, J1 VREFDQ (power), J2 VSS5 (power), J3 ZQ0, J4 WE_L (in), J9 A1 (in), J10 ZQ1, J11 VSS6 (power), J12 VREFCA (power), K1 BA0 (in), K2 A9 (in), K3 A2 (in), K4 A0 (in), K9 A4 (in), K10 A6 (in), K11 A12_BCN (in), K12 BA1 (in), L1 VDD5 (power), L2 A7 (in), L3 A5 (in), L4 A3 (in), L9 A8 (in), L10 A11 (in), L11 A13 (in), L12 VDD6 (power), M1 VSS7 (power), M2 DQ24 (io), M3 VDDQ11 (power), M4 DQ25 (io), M9 DQ17 (io), M10 VDDQ12 (power), M11 DQ16 (io), M12 VSS8 (power), N1 VSSQ11 (power), N2 DQ26 (io), N3 VDDQ13 (power), N4 DQ27 (io), N9 DQ19 (io), N10 VDDQ14 (power), N11 DQ18 (io), N12 VSSQ12 (power), P1 VSSQ13 (power), P2 VDDQ15 (power), P3 DQS3 (io), P4 DQS3_L (io), P9 DQS2_L (io), P10 DQS2 (io), P11 VDDQ16 (power), P12 VSSQ14 (power), R1 VDDQ17 (power), R2 DQ28 (io), R3 VSSQ15 (power), R4 DM3 (io), R9 DM2 (io), R10 VSSQ16 (power), R11 DQ20 (io), R12 VDDQ18 (power), T1 VDDQ19 (power), T2 DQ30 (io), T3 VSSQ17 (power), T4 DQ29 (io), T9 DQ21 (io), T10 VSSQ18 (power), T11 DQ22 (io), T12 VDDQ20 (power), U1 VDD7 (power), U2 VSS9 (power), U3 VSSQ19 (power), U4 DQ31 (io), U9 DQ23 (io), U10 VSSQ20 (power), U11 VSS10 (power), U12 VDD8 (power)

## DIODE_BAS16XV2T1G
designator D?, comment 2mA_75V  Vendor PN: BAS16XV2T1G
DIODE, SWITCH, 200mA, 75V, SOD523; MFG: ON SEMICONDUCTOR; DEVICE: DIODE_BAS16XV2T1G; MFG PART NO: BAS16XV2T1G; Vendor: ON SEMICONDUCTOR
footprint SOD-523
pins: 1 CATHODE, 2 ANODE

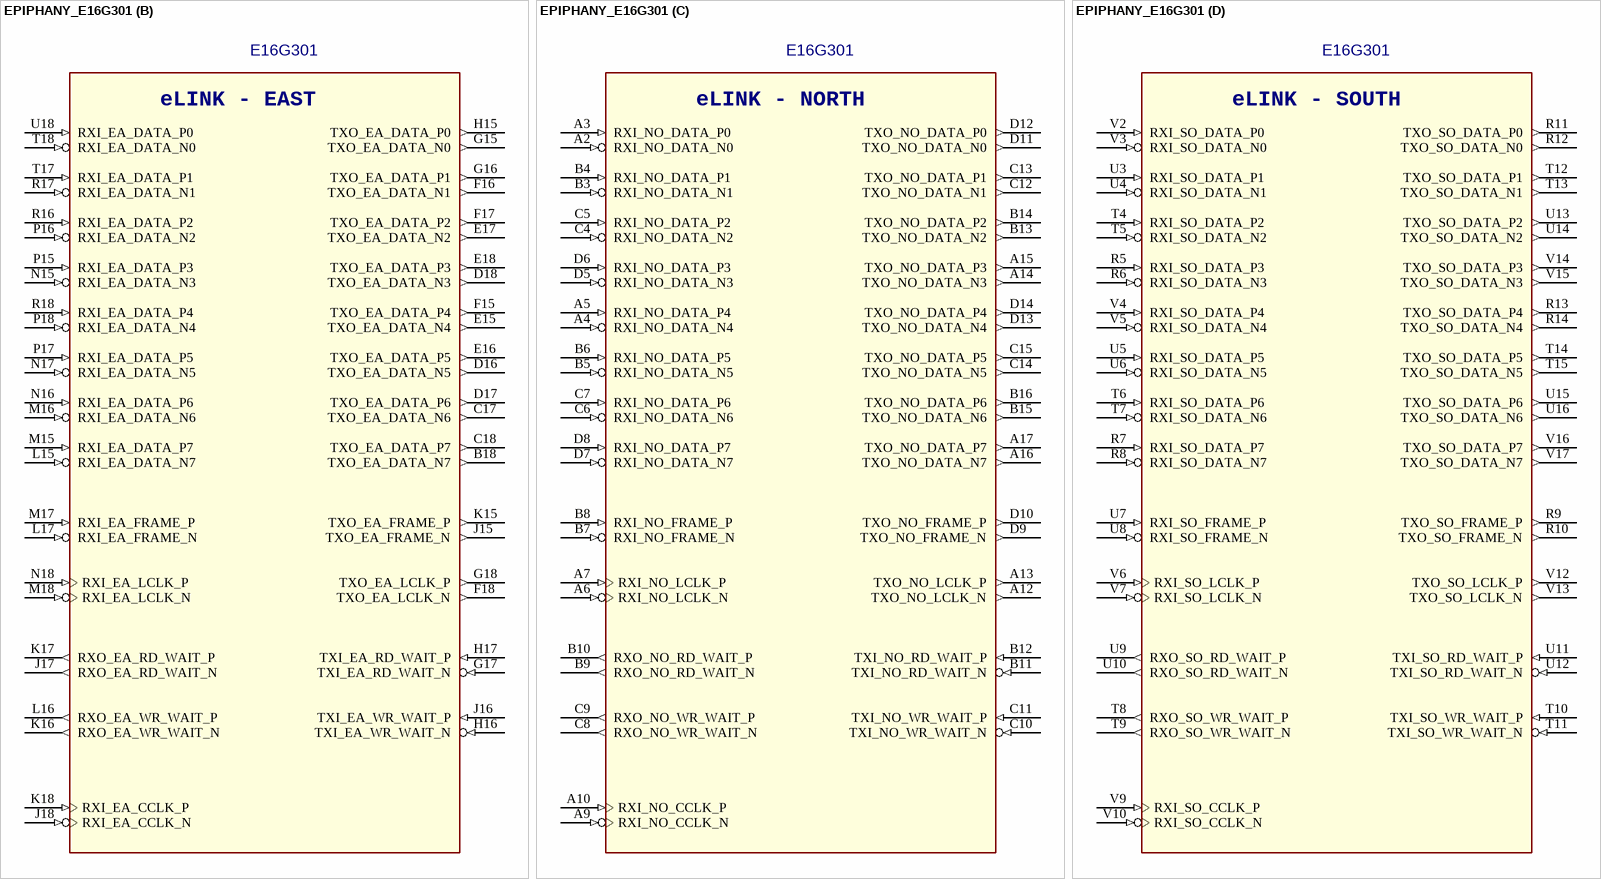
[diagram p4: symbol EPIPHANY_E16G301]

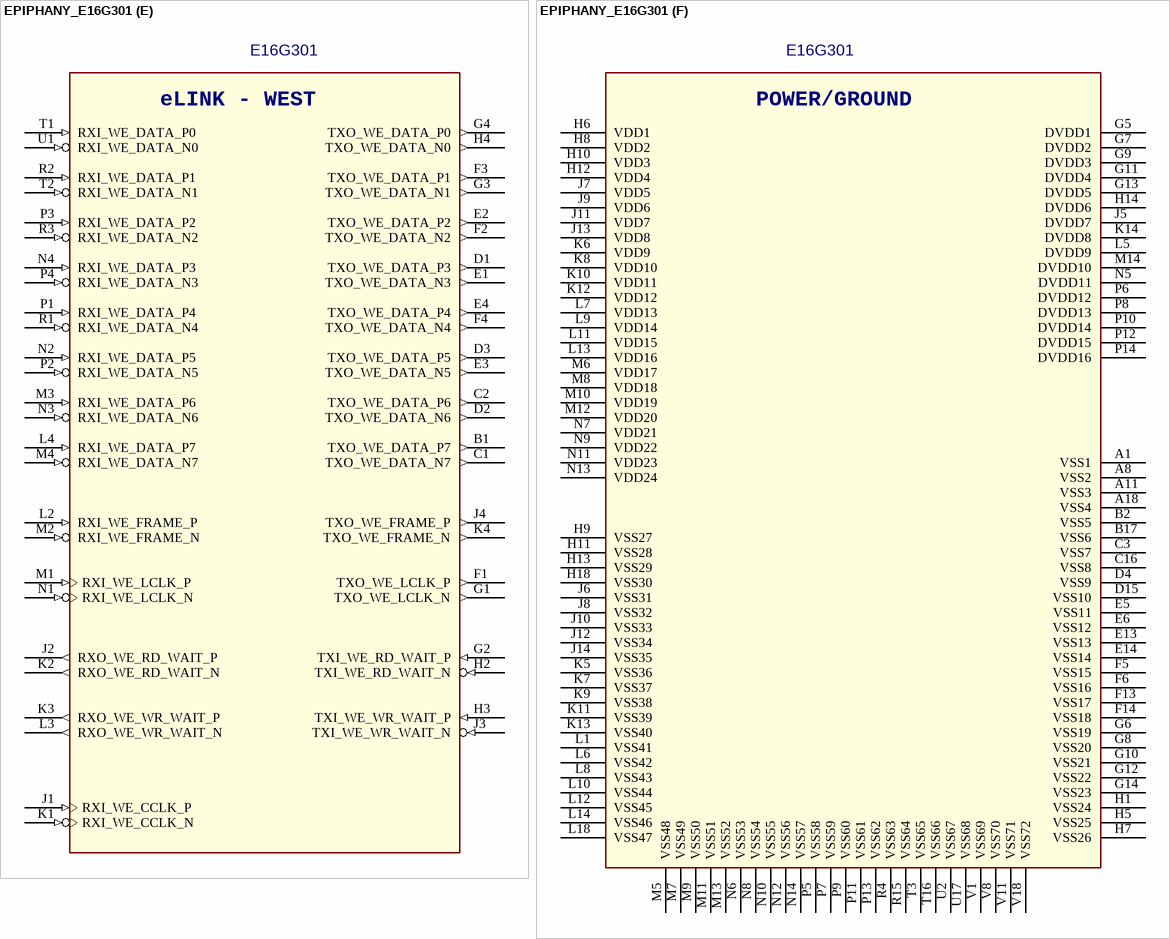
[diagram p5: symbol EPIPHANY_E16G301]

## EPIPHANY_E16G301
designator U?, comment Vendor PN: E16G301  (hidden comment: 16-CORE MICROPROCESSOR)
IC, 16-CORE MICROPROCESSOR, ADAPTEVA, E16G301, BGA324; DEVICE: EPIPHANY_E16G301; SPLIT_INST: TRUE; Vendor: ADAPTEVA
footprint BGA324_15SQX1P5_P8MMP
part A pins: E7 XID3 (io), E8 SCLKI_XID1 (io), E9 SDO_YID2 (io), E10 CSBO_YID0 (io), E11 SCLKO_YID1 (io), E12 FLAG (out), F7 MVSS (in), F8 MVDD (in), F9 YID3 (io), F10 SDI_XID2 (io), F11 RESET_N (in), F12 CSBI_XID0 (io)
part B pins: B18 TXO_EA_DATA_N7 (out), C17 TXO_EA_DATA_N6 (out), C18 TXO_EA_DATA_P7 (out), D16 TXO_EA_DATA_N5 (out), D17 TXO_EA_DATA_P6 (out), D18 TXO_EA_DATA_N3 (out), E15 TXO_EA_DATA_N4 (out), E16 TXO_EA_DATA_P5 (out), E17 TXO_EA_DATA_N2 (out), E18 TXO_EA_DATA_P3 (out), F15 TXO_EA_DATA_P4 (out), F16 TXO_EA_DATA_N1 (out), F17 TXO_EA_DATA_P2 (out), F18 TXO_EA_LCLK_N (out), G15 TXO_EA_DATA_N0 (out), G16 TXO_EA_DATA_P1 (out), G17 TXI_EA_RD_WAIT_N (in), G18 TXO_EA_LCLK_P (out), H15 TXO_EA_DATA_P0 (out), H16 TXI_EA_WR_WAIT_N (in), H17 TXI_EA_RD_WAIT_P (in), J15 TXO_EA_FRAME_N (out), J16 TXI_EA_WR_WAIT_P (in), J17 RXO_EA_RD_WAIT_N (out), J18 RXI_EA_CCLK_N (in), K15 TXO_EA_FRAME_P (out), K16 RXO_EA_WR_WAIT_N (out), K17 RXO_EA_RD_WAIT_P (out), K18 RXI_EA_CCLK_P (in), L15 RXI_EA_DATA_N7 (in), L16 RXO_EA_WR_WAIT_P (out), L17 RXI_EA_FRAME_N (in), M15 RXI_EA_DATA_P7 (in), M16 RXI_EA_DATA_N6 (in), M17 RXI_EA_FRAME_P (in), M18 RXI_EA_LCLK_N (in), N15 RXI_EA_DATA_N3 (in), N16 RXI_EA_DATA_P6 (in), N17 RXI_EA_DATA_N5 (in), N18 RXI_EA_LCLK_P (in), P15 RXI_EA_DATA_P3 (in), P16 RXI_EA_DATA_N2 (in), P17 RXI_EA_DATA_P5 (in), P18 RXI_EA_DATA_N4 (in), R16 RXI_EA_DATA_P2 (in), R17 RXI_EA_DATA_N1 (in), R18 RXI_EA_DATA_P4 (in), T17 RXI_EA_DATA_P1 (in), T18 RXI_EA_DATA_N0 (in), U18 RXI_EA_DATA_P0 (in)
part C pins: A2 RXI_NO_DATA_N0 (in), A3 RXI_NO_DATA_P0 (in), A4 RXI_NO_DATA_N4 (in), A5 RXI_NO_DATA_P4 (in), A6 RXI_NO_LCLK_N (in), A7 RXI_NO_LCLK_P (in), A9 RXI_NO_CCLK_N (in), A10 RXI_NO_CCLK_P (in), A12 TXO_NO_LCLK_N (out), A13 TXO_NO_LCLK_P (out), A14 TXO_NO_DATA_N3 (out), A15 TXO_NO_DATA_P3 (out), A16 TXO_NO_DATA_N7 (out), A17 TXO_NO_DATA_P7 (out), B3 RXI_NO_DATA_N1 (in), B4 RXI_NO_DATA_P1 (in), B5 RXI_NO_DATA_N5 (in), B6 RXI_NO_DATA_P5 (in), B7 RXI_NO_FRAME_N (in), B8 RXI_NO_FRAME_P (in), B9 RXO_NO_RD_WAIT_N (out), B10 RXO_NO_RD_WAIT_P (out), B11 TXI_NO_RD_WAIT_N (in), B12 TXI_NO_RD_WAIT_P (in), B13 TXO_NO_DATA_N2 (out), B14 TXO_NO_DATA_P2 (out), B15 TXO_NO_DATA_N6 (out), B16 TXO_NO_DATA_P6 (out), C4 RXI_NO_DATA_N2 (in), C5 RXI_NO_DATA_P2 (in), C6 RXI_NO_DATA_N6 (in), C7 RXI_NO_DATA_P6 (in), C8 RXO_NO_WR_WAIT_N (out), C9 RXO_NO_WR_WAIT_P (out), C10 TXI_NO_WR_WAIT_N (in), C11 TXI_NO_WR_WAIT_P (in), C12 TXO_NO_DATA_N1 (out), C13 TXO_NO_DATA_P1 (out), C14 TXO_NO_DATA_N5 (out), C15 TXO_NO_DATA_P5 (out), D5 RXI_NO_DATA_N3 (in), D6 RXI_NO_DATA_P3 (in), D7 RXI_NO_DATA_N7 (in), D8 RXI_NO_DATA_P7 (in), D9 TXO_NO_FRAME_N (out), D10 TXO_NO_FRAME_P (out), D11 TXO_NO_DATA_N0 (out), D12 TXO_NO_DATA_P0 (out), D13 TXO_NO_DATA_N4 (out), D14 TXO_NO_DATA_P4 (out)
part D pins: R5 RXI_SO_DATA_P3 (in), R6 RXI_SO_DATA_N3 (in), R7 RXI_SO_DATA_P7 (in), R8 RXI_SO_DATA_N7 (in), R9 TXO_SO_FRAME_P (out), R10 TXO_SO_FRAME_N (out), R11 TXO_SO_DATA_P0 (out), R12 TXO_SO_DATA_N0 (out), R13 TXO_SO_DATA_P4 (out), R14 TXO_SO_DATA_N4 (out), T4 RXI_SO_DATA_P2 (in), T5 RXI_SO_DATA_N2 (in), T6 RXI_SO_DATA_P6 (in), T7 RXI_SO_DATA_N6 (in), T8 RXO_SO_WR_WAIT_P (out), T9 RXO_SO_WR_WAIT_N (out), T10 TXI_SO_WR_WAIT_P (in), T11 TXI_SO_WR_WAIT_N (in), T12 TXO_SO_DATA_P1 (out), T13 TXO_SO_DATA_N1 (out), T14 TXO_SO_DATA_P5 (out), T15 TXO_SO_DATA_N5 (out), U3 RXI_SO_DATA_P1 (in), U4 RXI_SO_DATA_N1 (in), U5 RXI_SO_DATA_P5 (in), U6 RXI_SO_DATA_N5 (in), U7 RXI_SO_FRAME_P (in), U8 RXI_SO_FRAME_N (in), U9 RXO_SO_RD_WAIT_P (out), U10 RXO_SO_RD_WAIT_N (out), U11 TXI_SO_RD_WAIT_P (in), U12 TXI_SO_RD_WAIT_N (in), U13 TXO_SO_DATA_P2 (out), U14 TXO_SO_DATA_N2 (out), U15 TXO_SO_DATA_P6 (out), U16 TXO_SO_DATA_N6 (out), V2 RXI_SO_DATA_P0 (in), V3 RXI_SO_DATA_N0 (in), V4 RXI_SO_DATA_P4 (in), V5 RXI_SO_DATA_N4 (in), V6 RXI_SO_LCLK_P (in), V7 RXI_SO_LCLK_N (in), V9 RXI_SO_CCLK_P (in), V10 RXI_SO_CCLK_N (in), V12 TXO_SO_LCLK_P (out), V13 TXO_SO_LCLK_N (out), V14 TXO_SO_DATA_P3 (out), V15 TXO_SO_DATA_N3 (out), V16 TXO_SO_DATA_P7 (out), V17 TXO_SO_DATA_N7 (out)
part E pins: B1 TXO_WE_DATA_P7 (out), C1 TXO_WE_DATA_N7 (out), C2 TXO_WE_DATA_P6 (out), D1 TXO_WE_DATA_P3 (out), D2 TXO_WE_DATA_N6 (out), D3 TXO_WE_DATA_P5 (out), E1 TXO_WE_DATA_N3 (out), E2 TXO_WE_DATA_P2 (out), E3 TXO_WE_DATA_N5 (out), E4 TXO_WE_DATA_P4 (out), F1 TXO_WE_LCLK_P (out), F2 TXO_WE_DATA_N2 (out), F3 TXO_WE_DATA_P1 (out), F4 TXO_WE_DATA_N4 (out), G1 TXO_WE_LCLK_N (out), G2 TXI_WE_RD_WAIT_P (in), G3 TXO_WE_DATA_N1 (out), G4 TXO_WE_DATA_P0 (out), H2 TXI_WE_RD_WAIT_N (in), H3 TXI_WE_WR_WAIT_P (in), H4 TXO_WE_DATA_N0 (out), J1 RXI_WE_CCLK_P (in), J2 RXO_WE_RD_WAIT_P (out), J3 TXI_WE_WR_WAIT_N (in), J4 TXO_WE_FRAME_P (out), K1 RXI_WE_CCLK_N (in), K2 RXO_WE_RD_WAIT_N (out), K3 RXO_WE_WR_WAIT_P (out), K4 TXO_WE_FRAME_N (out), L2 RXI_WE_FRAME_P (in), L3 RXO_WE_WR_WAIT_N (out), L4 RXI_WE_DATA_P7 (in), M1 RXI_WE_LCLK_P (in), M2 RXI_WE_FRAME_N (in), M3 RXI_WE_DATA_P6 (in), M4 RXI_WE_DATA_N7 (in), N1 RXI_WE_LCLK_N (in), N2 RXI_WE_DATA_P5 (in), N3 RXI_WE_DATA_N6 (in), N4 RXI_WE_DATA_P3 (in), P1 RXI_WE_DATA_P4 (in), P2 RXI_WE_DATA_N5 (in), P3 RXI_WE_DATA_P2 (in), P4 RXI_WE_DATA_N3 (in), R1 RXI_WE_DATA_N4 (in), R2 RXI_WE_DATA_P1 (in), R3 RXI_WE_DATA_N2 (in), T1 RXI_WE_DATA_P0 (in), T2 RXI_WE_DATA_N1 (in), U1 RXI_WE_DATA_N0 (in)
part F pins: A1 VSS1 (power), A8 VSS2 (power), A11 VSS3 (power), A18 VSS4 (power), B2 VSS5 (power), B17 VSS6 (power), C3 VSS7 (power), C16 VSS8 (power), D4 VSS9 (power), D15 VSS10 (power), E5 VSS11 (power), E6 VSS12 (power), E13 VSS13 (power), E14 VSS14 (power), F5 VSS15 (power), F6 VSS16 (power), F13 VSS17 (power), F14 VSS18 (power), G5 DVDD1 (power), G6 VSS19 (power), G7 DVDD2 (power), G8 VSS20 (power), G9 DVDD3 (power), G10 VSS21 (power), G11 DVDD4 (power), G12 VSS22 (power), G13 DVDD5 (power), G14 VSS23 (power), H1 VSS24 (power), H5 VSS25 (power), H6 VDD1 (power), H7 VSS26 (power), H8 VDD2 (power), H9 VSS27 (power), H10 VDD3 (power), H11 VSS28 (power), H12 VDD4 (power), H13 VSS29 (power), H14 DVDD6 (power), H18 VSS30 (power), J5 DVDD7 (power), J6 VSS31 (power), J7 VDD5 (power), J8 VSS32 (power), J9 VDD6 (power), J10 VSS33 (power), J11 VDD7 (power), J12 VSS34 (power), J13 VDD8 (power), J14 VSS35 (power), K5 VSS36 (power), K6 VDD9 (power), K7 VSS37 (power), K8 VDD10 (power), K9 VSS38 (power), K10 VDD11 (power), K11 VSS39 (power), K12 VDD12 (power), K13 VSS40 (power), K14 DVDD8 (power), L1 VSS41 (power), L5 DVDD9 (power), L6 VSS42 (power), L7 VDD13 (power), L8 VSS43 (power), L9 VDD14 (power), L10 VSS44 (power), L11 VDD15 (power), L12 VSS45 (power), L13 VDD16 (power), L14 VSS46 (power), L18 VSS47 (power), M5 VSS48 (power), M6 VDD17 (power), M7 VSS49 (power), M8 VDD18 (power), M9 VSS50 (power), M10 VDD19 (power), M11 VSS51 (power), M12 VDD20 (power), M13 VSS52 (power), M14 DVDD10 (power), N5 DVDD11 (power), N6 VSS53 (power), N7 VDD21 (power), N8 VSS54 (power), N9 VDD22 (power), N10 VSS55 (power), N11 VDD23 (power), N12 VSS56 (power), N13 VDD24 (power), N14 VSS57 (power), P5 VSS58 (power), P6 DVDD12 (power), P7 VSS59 (power), P8 DVDD13 (power), P9 VSS60 (power), P10 DVDD14 (power), P11 VSS61 (power), P12 DVDD15 (power), P13 VSS62 (power), P14 DVDD16 (power), R4 VSS63 (power), R15 VSS64 (power), T3 VSS65 (power), T16 VSS66 (power), U2 VSS67 (power), U17 VSS68 (power), V1 VSS69 (power), V8 VSS70 (power), V11 VSS71 (power), V18 VSS72 (power)
part A text: CONTROL/MONITOR
part B text: eLINK - EAST
part C text: eLINK - NORTH
part D text: eLINK - SOUTH
part E text: eLINK - WEST
part F text: POWER/GROUND

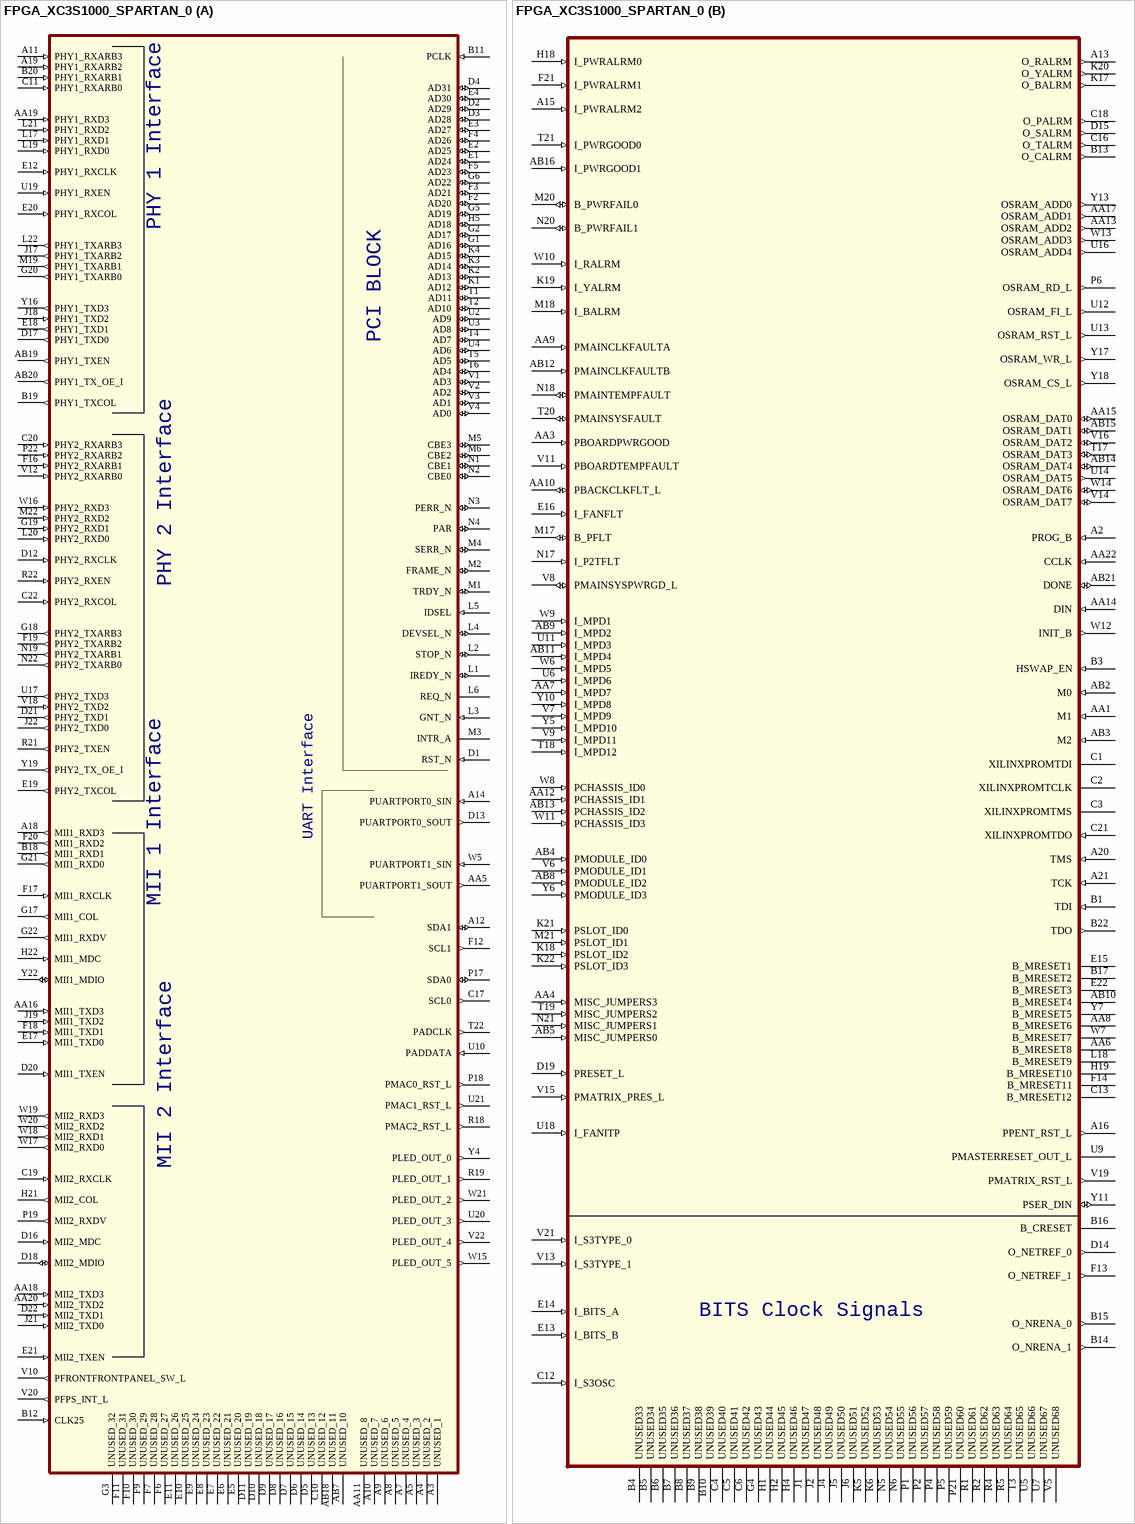
[diagram p6: symbol FPGA_XC3S1000_SPARTAN_0]

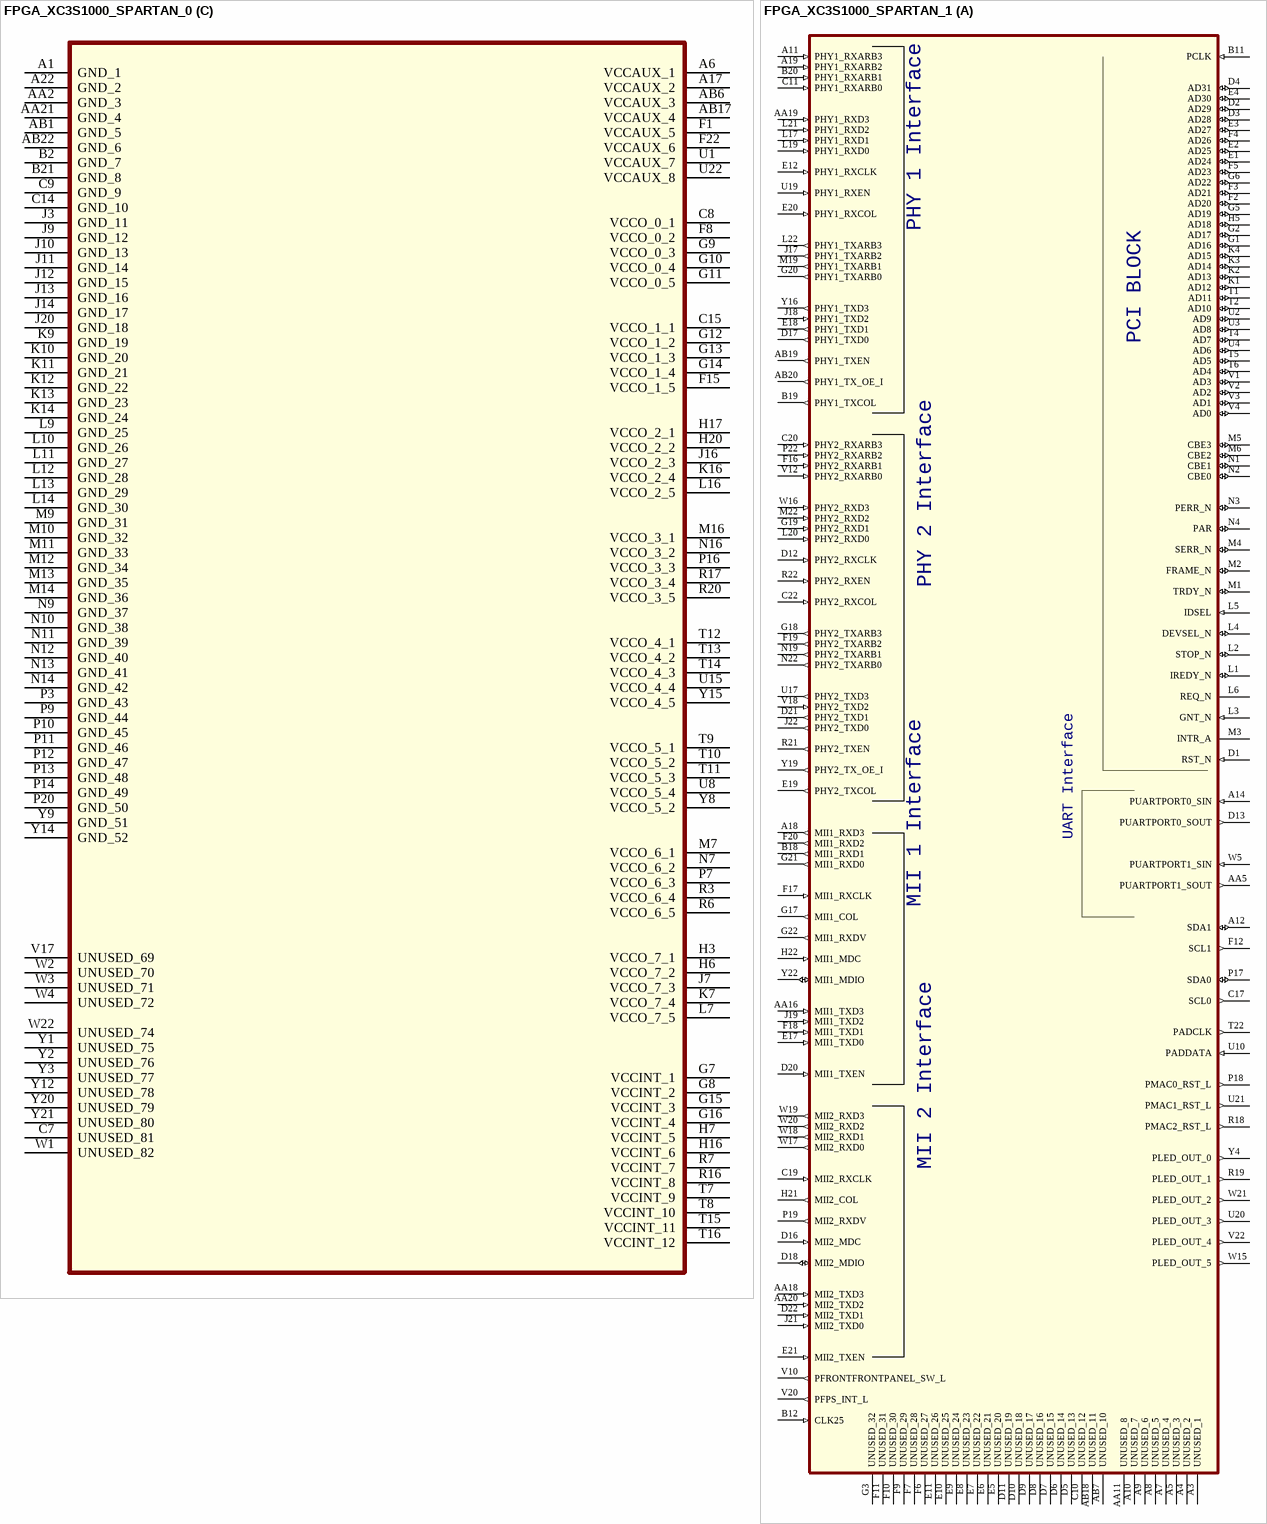
[diagram p7: symbols FPGA_XC3S1000_SPARTAN_0 to FPGA_XC3S1000_SPARTAN_1]

## FPGA_XC3S1000_SPARTAN_0
designator U?, comment SPARTAN3S  (value not drawn)
DEVICE: IC000390; CLASS: IC; PART_NUMBER: IC000390
footprint pbga456_1mm
part A pins: A3 UNUSED_1, A4 UNUSED_2, A5 UNUSED_3, A7 UNUSED_4, A8 UNUSED_5, A9 UNUSED_6, A10 UNUSED_7, A11 PHY1_RXARB3 (in), A12 SDA1 (io), A14 PUARTPORT0_SIN (in), A18 MII1_RXD3 (out), A19 PHY1_RXARB2 (in), AA5 PUARTPORT1_SOUT (out), AA11 UNUSED_8, AA16 MII1_TXD3 (in), AA18 MII2_TXD3 (in), AA19 PHY1_RXD3 (in), AA20 MII2_TXD2 (in), AB7 UNUSED_10, AB18 UNUSED_11, AB19 PHY1_TXEN (out), AB20 PHY1_TX_OE_I (out), B11 PCLK (in), B12 CLK25 (in), B18 MII1_RXD1 (out), B19 PHY1_TXCOL (out), B20 PHY1_RXARB1 (in), C10 UNUSED_12, C11 PHY1_RXARB0 (in), C17 SCL0 (out), C19 MII2_RXCLK (in), C20 PHY2_RXARB3 (in), C22 PHY2_RXCOL (in), D1 RST_N (in), D2 AD29 (io), D3 AD28 (io), D4 AD31 (io), D5 UNUSED_13, D6 UNUSED_14, D7 UNUSED_15, D8 UNUSED_16, D9 UNUSED_17, D10 UNUSED_18, D11 UNUSED_19, D12 PHY2_RXCLK (in), D13 PUARTPORT0_SOUT (out), D16 MII2_MDC (in), D17 PHY1_TXD0 (out), D18 MII2_MDIO (io), D20 MII1_TXEN (in), D21 PHY2_TXD1 (out), D22 MII2_TXD1 (in), E1 AD24 (io), E2 AD25 (io), E3 AD27 (io), E4 AD30 (io), E5 UNUSED_20, E6 UNUSED_21, E7 UNUSED_22, E8 UNUSED_23, E9 UNUSED_24, E10 UNUSED_25, E11 UNUSED_26, E12 PHY1_RXCLK (in), E17 MII1_TXD0 (in), E18 PHY1_TXD1 (out), E19 PHY2_TXCOL (out), E20 PHY1_RXCOL (in), E21 MII2_TXEN (in), F2 AD20 (io), F3 AD21 (io), F4 AD26 (io), F5 AD23 (io), F6 UNUSED_27, F7 UNUSED_28, F9 UNUSED_29, F10 UNUSED_30, F11 UNUSED_31, F12 SCL1 (out), F16 PHY2_RXARB1 (in), F17 MII1_RXCLK (in), F18 MII1_TXD1 (in), F19 PHY2_TXARB2 (out), F20 MII1_RXD2 (out), G1 AD16 (io), G2 AD17 (io), G3 UNUSED_32, G5 AD19 (io), G6 AD22 (io), G17 MII1_COL (out), G18 PHY2_TXARB3 (out), G19 PHY2_RXD1 (in), G20 PHY1_TXARB0 (out), G21 MII1_RXD0 (out), G22 MII1_RXDV (out), H5 AD18 (io), H21 MII2_COL (out), H22 MII1_MDC (in), J17 PHY1_TXARB2 (out), J18 PHY1_TXD2 (in), J19 MII1_TXD2 (in), J21 MII2_TXD0 (in), J22 PHY2_TXD0 (out), K1 AD12 (io), K2 AD13 (io), K3 AD14 (io), K4 AD15 (io), L1 IREDY_N (io), L2 STOP_N (io), L3 GNT_N (in), L4 DEVSEL_N (io), L5 IDSEL (in), L6 REQ_N (hiz), L17 PHY1_RXD1 (in), L19 PHY1_RXD0 (in), L20 PHY2_RXD0 (in), L21 PHY1_RXD2 (in), L22 PHY1_TXARB3 (out), M1 TRDY_N (io), M2 FRAME_N (io), M3 INTR_A (hiz), M4 SERR_N (io), M5 CBE3 (io), M6 CBE2 (io), M19 PHY1_TXARB1 (out), M22 PHY2_RXD2 (in), N1 CBE1 (io), N2 CBE0 (io), N3 PERR_N (io), N4 PAR (io), N19 PHY2_TXARB1 (out), N22 PHY2_TXARB0 (out), P17 SDA0 (io), P18 PMAC0_RST_L (out), P19 MII2_RXDV (out), P22 PHY2_RXARB2 (in), R18 PMAC2_RST_L (out), R19 PLED_OUT_1 (out), R21 PHY2_TXEN (out), R22 PHY2_RXEN (in), T1 AD11 (io), T2 AD10 (io), T4 AD7 (io), T5 AD5 (io), T6 AD4 (io), T22 PADCLK (out), U2 AD9 (io), U3 AD8 (io), U4 AD6 (io), U10 PADDATA (in), U17 PHY2_TXD3 (out), U19 PHY1_RXEN (in), U20 PLED_OUT_3 (out), U21 PMAC1_RST_L (out), V1 AD3 (io), V2 AD2 (io), V3 AD1 (io), V4 AD0 (io), V10 PFRONTFRONTPANEL_SW_L (out), V12 PHY2_RXARB0 (in), V18 PHY2_TXD2 (in), V20 PFPS_INT_L (out), V22 PLED_OUT_4 (out), W5 PUARTPORT1_SIN (in), W15 PLED_OUT_5 (out), W16 PHY2_RXD3 (in), W17 MII2_RXD0 (out), W18 MII2_RXD1 (out), W19 MII2_RXD3 (out), W20 MII2_RXD2 (out), W21 PLED_OUT_2 (out), Y4 PLED_OUT_0 (out), Y16 PHY1_TXD3 (out), Y19 PHY2_TX_OE_I (out), Y22 MII1_MDIO (io)
part B pins: A2 PROG_B (in), A13 O_RALRM (out), A15 I_PWRALRM2 (in), A16 PPENT_RST_L (out), A20 TMS (in), A21 TCK (in), AA1 M1 (in), AA3 PBOARDPWRGOOD (in), AA4 MISC_JUMPERS3 (in), AA6 B_MRESET8 (hiz), AA7 I_MPD7 (in), AA8 B_MRESET6 (hiz), AA9 PMAINCLKFAULTA (in), AA10 PBACKCLKFLT_L (io), AA12 PCHASSIS_ID1 (in), AA13 OSRAM_ADD2 (out), AA14 DIN (in), AA15 OSRAM_DAT0 (io), AA17 OSRAM_ADD1 (out), AA22 CCLK (in), AB2 M0 (in), AB3 M2 (in), AB4 PMODULE_ID0 (in), AB5 MISC_JUMPERS0 (in), AB8 PMODULE_ID2 (in), AB9 I_MPD2 (in), AB10 B_MRESET4 (hiz), AB11 I_MPD4 (in), AB12 PMAINCLKFAULTB (in), AB13 PCHASSIS_ID2 (in), AB14 OSRAM_DAT4 (io), AB15 OSRAM_DAT1 (io), AB16 I_PWRGOOD1 (in), AB21 DONE (io), B1 TDI (in), B3 HSWAP_EN (in), B4 UNUSED33, B5 UNUSED34, B6 UNUSED35, B7 UNUSED36, B8 UNUSED37, B9 UNUSED38, B10 UNUSED39, B13 O_CALRM (out), B14 O_NRENA_1 (out), B15 O_NRENA_0 (out), B16 B_CRESET (hiz), B17 B_MRESET2 (hiz), B22 TDO (out), C1 XILINXPROMTDI (hiz), C2 XILINXPROMTCLK (hiz), C3 XILINXPROMTMS (hiz), C4 UNUSED40, C5 UNUSED41, C6 UNUSED42, C12 I_S3OSC (in), C13 B_MRESET12 (hiz), C16 O_TALRM (out), C18 O_PALRM (out), C21 XILINXPROMTDO (in), D14 O_NETREF_0 (out), D15 O_SALRM (out), D19 PRESET_L (in), E13 I_BITS_B (in), E14 I_BITS_A (in), E15 B_MRESET1 (hiz), E16 I_FANFLT (in), E22 B_MRESET3 (hiz), F13 O_NETREF_1 (out), F14 B_MRESET11 (hiz), F21 I_PWRALRM1 (in), G4 UNUSED43, H1 UNUSED44, H2 UNUSED45, H4 UNUSED46, H18 I_PWRALRM0 (in), H19 B_MRESET10 (hiz), J1 UNUSED47, J2 UNUSED48, J4 UNUSED49, J5 UNUSED50, J6 UNUSED51, K5 UNUSED52, K6 UNUSED53, K17 O_BALRM (out), K18 PSLOT_ID2 (in), K19 I_YALRM (in), K20 O_YALRM (out), K21 PSLOT_ID0 (in), K22 PSLOT_ID3 (in), L18 B_MRESET9 (hiz), M17 B_PFLT (io), M18 I_BALRM (in), M20 B_PWRFAIL0 (io), M21 PSLOT_ID1 (in), N5 UNUSED54, N6 UNUSED55, N17 I_P2TFLT (in), N18 PMAINTEMPFAULT (io), N20 B_PWRFAIL1 (io), N21 MISC_JUMPERS1 (in), P1 UNUSED56, P2 UNUSED57, P4 UNUSED58, P5 UNUSED59, P6 OSRAM_RD_L (out), P21 UNUSED60, R1 UNUSED61, R2 UNUSED62, R4 UNUSED63, R5 UNUSED64, T3 UNUSED65, T17 OSRAM_DAT3 (io), T18 I_MPD12 (in), T19 MISC_JUMPERS2 (in), T20 PMAINSYSFAULT (io), T21 I_PWRGOOD0 (in), U5 UNUSED66, U6 I_MPD6 (in), U7 UNUSED67, U9 PMASTERRESET_OUT_L (hiz), U11 I_MPD3 (in), U12 OSRAM_FI_L (out), U13 OSRAM_RST_L (out), U14 OSRAM_DAT5 (out), U16 OSRAM_ADD4 (out), U18 I_FANITP (in), V5 UNUSED68, V6 PMODULE_ID1 (in), V7 I_MPD9 (in), V8 PMAINSYSPWRGD_L (io), V9 I_MPD11 (in), V11 PBOARDTEMPFAULT (in), V13 I_S3TYPE_1 (in), V14 OSRAM_DAT7 (io), V15 PMATRIX_PRES_L (in), V16 OSRAM_DAT2 (io), V19 PMATRIX_RST_L (out), V21 I_S3TYPE_0 (in), W6 I_MPD5 (in), W7 B_MRESET7 (hiz), W8 PCHASSIS_ID0 (in), W9 I_MPD1 (in), W10 I_RALRM (in), W11 PCHASSIS_ID3 (in), W12 INIT_B (out), W13 OSRAM_ADD3 (out), W14 OSRAM_DAT6 (io), Y5 I_MPD10 (in), Y6 PMODULE_ID3 (in), Y7 B_MRESET5 (hiz), Y10 I_MPD8 (in), Y11 PSER_DIN (io), Y13 OSRAM_ADD0 (out), Y17 OSRAM_WR_L (out), Y18 OSRAM_CS_L (out)
part C pins: A1 GND_1 (power), A6 VCCAUX_1 (power), A17 VCCAUX_2 (power), A22 GND_2 (power), AA2 GND_3 (power), AA21 GND_4 (power), AB1 GND_5 (power), AB6 VCCAUX_3 (power), AB17 VCCAUX_4 (power), AB22 GND_6 (power), B2 GND_7 (power), B21 GND_8 (power), C7 UNUSED_81, C8 VCCO_0_1 (power), C9 GND_9 (power), C14 GND_10 (power), C15 VCCO_1_1 (power), F1 VCCAUX_5 (power), F8 VCCO_0_2 (power), F15 VCCO_1_5 (power), F22 VCCAUX_6 (power), G7 VCCINT_1 (power), G8 VCCINT_2 (power), G9 VCCO_0_3 (power), G10 VCCO_0_4 (power), G11 VCCO_0_5 (power), G12 VCCO_1_2 (power), G13 VCCO_1_3 (power), G14 VCCO_1_4 (power), G15 VCCINT_3 (power), G16 VCCINT_4 (power), H3 VCCO_7_1 (power), H6 VCCO_7_2 (power), H7 VCCINT_5 (power), H16 VCCINT_6 (power), H17 VCCO_2_1 (power), H20 VCCO_2_2 (power), J3 GND_11 (power), J7 VCCO_7_3 (power), J9 GND_12 (power), J10 GND_13 (power), J11 GND_14 (power), J12 GND_15 (power), J13 GND_16 (power), J14 GND_17 (power), J16 VCCO_2_3 (power), J20 GND_18 (power), K7 VCCO_7_4 (power), K9 GND_19 (power), K10 GND_20 (power), K11 GND_21 (power), K12 GND_22 (power), K13 GND_23 (power), K14 GND_24 (power), K16 VCCO_2_4 (power), L7 VCCO_7_5 (power), L9 GND_25 (power), L10 GND_26 (power), L11 GND_27 (power), L12 GND_28 (power), L13 GND_29 (power), L14 GND_30 (power), L16 VCCO_2_5 (power), M7 VCCO_6_1 (power), M9 GND_31 (power), M10 GND_32 (power), M11 GND_33 (power), M12 GND_34 (power), M13 GND_35 (power), M14 GND_36 (power), M16 VCCO_3_1 (power), N7 VCCO_6_2 (power), N9 GND_37 (power), N10 GND_38 (power), N11 GND_39 (power), N12 GND_40 (power), N13 GND_41 (power), N14 GND_42 (power), N16 VCCO_3_2 (power), P3 GND_43 (power), P7 VCCO_6_3 (power), P9 GND_44 (power), P10 GND_45 (power), P11 GND_46 (power), P12 GND_47 (power), P13 GND_48 (power), P14 GND_49 (power), P16 VCCO_3_3 (power), P20 GND_50 (power), R3 VCCO_6_4 (power), R6 VCCO_6_5 (power), R7 VCCINT_7 (power), R16 VCCINT_8 (power), R17 VCCO_3_4 (power), R20 VCCO_3_5 (power), T7 VCCINT_9 (power), T8 VCCINT_10 (power), T9 VCCO_5_1 (power), T10 VCCO_5_2 (power), T11 VCCO_5_3 (power), T12 VCCO_4_1 (power), T13 VCCO_4_2 (power), T14 VCCO_4_3 (power), T15 VCCINT_11 (power), T16 VCCINT_12 (power), U1 VCCAUX_7 (power), U8 VCCO_5_4 (power), U15 VCCO_4_4 (power), U22 VCCAUX_8 (power), V17 UNUSED_69, W1 UNUSED_82, W2 UNUSED_70, W3 UNUSED_71, W4 UNUSED_72, W22 UNUSED_74, Y1 UNUSED_75, Y2 UNUSED_76, Y3 UNUSED_77, Y8 VCCO_5_2 (power), Y9 GND_51 (power), Y12 UNUSED_78, Y14 GND_52 (power), Y15 VCCO_4_5 (power), Y20 UNUSED_79, Y21 UNUSED_80
part A text: PHY 1 Interface; PCI BLOCK; PHY 2 Interface; UART Interface; MII 1 Interface; MII 2 Interface
part B text: BITS Clock Signals

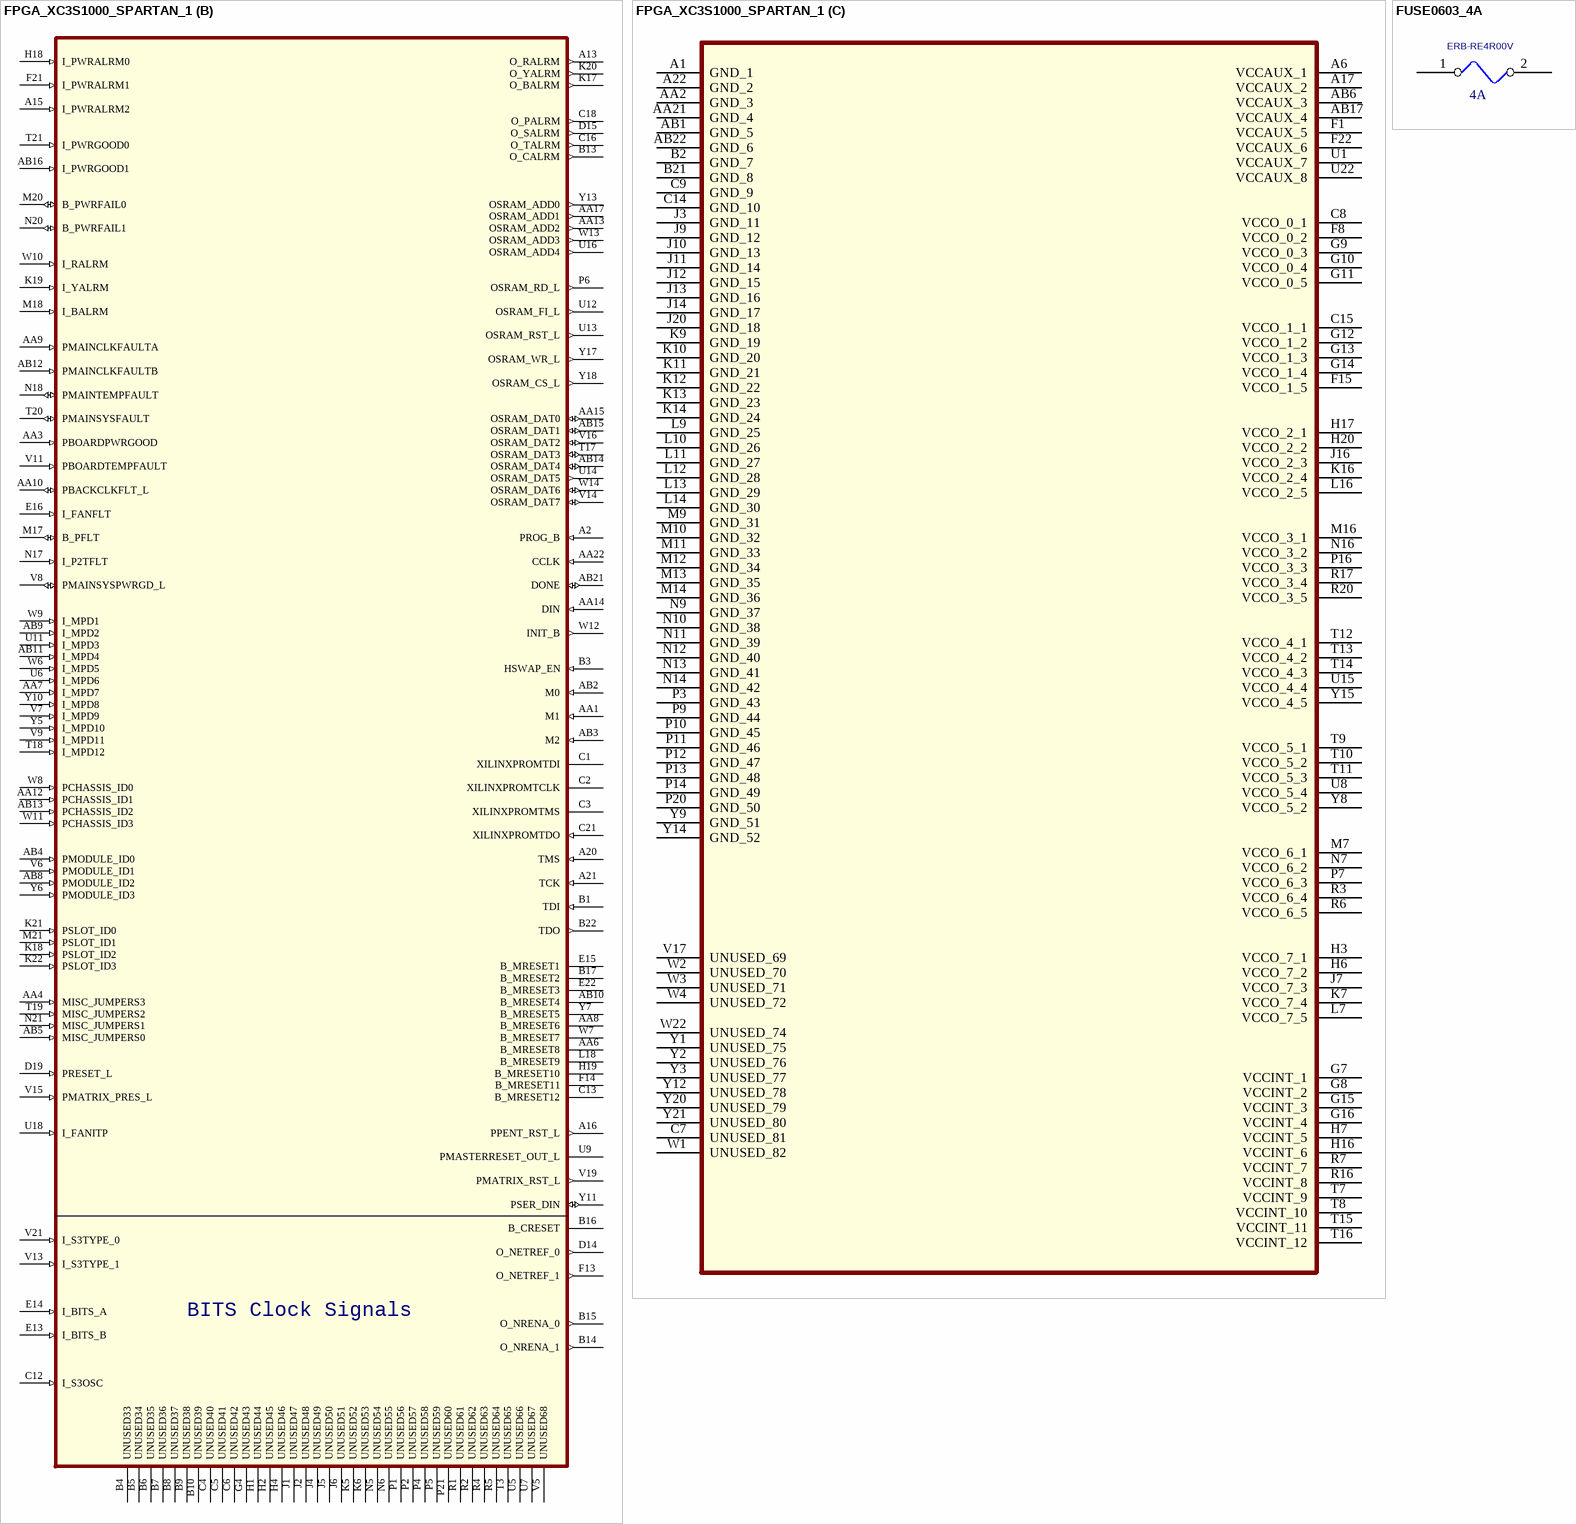
[diagram p8: symbols FPGA_XC3S1000_SPARTAN_1 to FUSE0603_4A]

## FPGA_XC3S1000_SPARTAN_1
designator U?, comment SPARTAN3S  (value not drawn)
DEVICE: IC000390; CLASS: IC; PART_NUMBER: IC000390
footprint pbga456_1mm
part A pins: A3 UNUSED_1, A4 UNUSED_2, A5 UNUSED_3, A7 UNUSED_4, A8 UNUSED_5, A9 UNUSED_6, A10 UNUSED_7, A11 PHY1_RXARB3 (in), A12 SDA1 (io), A14 PUARTPORT0_SIN (in), A18 MII1_RXD3 (out), A19 PHY1_RXARB2 (in), AA5 PUARTPORT1_SOUT (out), AA11 UNUSED_8, AA16 MII1_TXD3 (in), AA18 MII2_TXD3 (in), AA19 PHY1_RXD3 (in), AA20 MII2_TXD2 (in), AB7 UNUSED_10, AB18 UNUSED_11, AB19 PHY1_TXEN (out), AB20 PHY1_TX_OE_I (out), B11 PCLK (in), B12 CLK25 (in), B18 MII1_RXD1 (out), B19 PHY1_TXCOL (out), B20 PHY1_RXARB1 (in), C10 UNUSED_12, C11 PHY1_RXARB0 (in), C17 SCL0 (out), C19 MII2_RXCLK (in), C20 PHY2_RXARB3 (in), C22 PHY2_RXCOL (in), D1 RST_N (in), D2 AD29 (io), D3 AD28 (io), D4 AD31 (io), D5 UNUSED_13, D6 UNUSED_14, D7 UNUSED_15, D8 UNUSED_16, D9 UNUSED_17, D10 UNUSED_18, D11 UNUSED_19, D12 PHY2_RXCLK (in), D13 PUARTPORT0_SOUT (out), D16 MII2_MDC (in), D17 PHY1_TXD0 (out), D18 MII2_MDIO (io), D20 MII1_TXEN (in), D21 PHY2_TXD1 (out), D22 MII2_TXD1 (in), E1 AD24 (io), E2 AD25 (io), E3 AD27 (io), E4 AD30 (io), E5 UNUSED_20, E6 UNUSED_21, E7 UNUSED_22, E8 UNUSED_23, E9 UNUSED_24, E10 UNUSED_25, E11 UNUSED_26, E12 PHY1_RXCLK (in), E17 MII1_TXD0 (in), E18 PHY1_TXD1 (out), E19 PHY2_TXCOL (out), E20 PHY1_RXCOL (in), E21 MII2_TXEN (in), F2 AD20 (io), F3 AD21 (io), F4 AD26 (io), F5 AD23 (io), F6 UNUSED_27, F7 UNUSED_28, F9 UNUSED_29, F10 UNUSED_30, F11 UNUSED_31, F12 SCL1 (out), F16 PHY2_RXARB1 (in), F17 MII1_RXCLK (in), F18 MII1_TXD1 (in), F19 PHY2_TXARB2 (out), F20 MII1_RXD2 (out), G1 AD16 (io), G2 AD17 (io), G3 UNUSED_32, G5 AD19 (io), G6 AD22 (io), G17 MII1_COL (out), G18 PHY2_TXARB3 (out), G19 PHY2_RXD1 (in), G20 PHY1_TXARB0 (out), G21 MII1_RXD0 (out), G22 MII1_RXDV (out), H5 AD18 (io), H21 MII2_COL (out), H22 MII1_MDC (in), J17 PHY1_TXARB2 (out), J18 PHY1_TXD2 (in), J19 MII1_TXD2 (in), J21 MII2_TXD0 (in), J22 PHY2_TXD0 (out), K1 AD12 (io), K2 AD13 (io), K3 AD14 (io), K4 AD15 (io), L1 IREDY_N (io), L2 STOP_N (io), L3 GNT_N (in), L4 DEVSEL_N (io), L5 IDSEL (in), L6 REQ_N (hiz), L17 PHY1_RXD1 (in), L19 PHY1_RXD0 (in), L20 PHY2_RXD0 (in), L21 PHY1_RXD2 (in), L22 PHY1_TXARB3 (out), M1 TRDY_N (io), M2 FRAME_N (io), M3 INTR_A (hiz), M4 SERR_N (io), M5 CBE3 (io), M6 CBE2 (io), M19 PHY1_TXARB1 (out), M22 PHY2_RXD2 (in), N1 CBE1 (io), N2 CBE0 (io), N3 PERR_N (io), N4 PAR (io), N19 PHY2_TXARB1 (out), N22 PHY2_TXARB0 (out), P17 SDA0 (io), P18 PMAC0_RST_L (out), P19 MII2_RXDV (out), P22 PHY2_RXARB2 (in), R18 PMAC2_RST_L (out), R19 PLED_OUT_1 (out), R21 PHY2_TXEN (out), R22 PHY2_RXEN (in), T1 AD11 (io), T2 AD10 (io), T4 AD7 (io), T5 AD5 (io), T6 AD4 (io), T22 PADCLK (out), U2 AD9 (io), U3 AD8 (io), U4 AD6 (io), U10 PADDATA (in), U17 PHY2_TXD3 (out), U19 PHY1_RXEN (in), U20 PLED_OUT_3 (out), U21 PMAC1_RST_L (out), V1 AD3 (io), V2 AD2 (io), V3 AD1 (io), V4 AD0 (io), V10 PFRONTFRONTPANEL_SW_L (out), V12 PHY2_RXARB0 (in), V18 PHY2_TXD2 (in), V20 PFPS_INT_L (out), V22 PLED_OUT_4 (out), W5 PUARTPORT1_SIN (in), W15 PLED_OUT_5 (out), W16 PHY2_RXD3 (in), W17 MII2_RXD0 (out), W18 MII2_RXD1 (out), W19 MII2_RXD3 (out), W20 MII2_RXD2 (out), W21 PLED_OUT_2 (out), Y4 PLED_OUT_0 (out), Y16 PHY1_TXD3 (out), Y19 PHY2_TX_OE_I (out), Y22 MII1_MDIO (io)
part B pins: A2 PROG_B (in), A13 O_RALRM (out), A15 I_PWRALRM2 (in), A16 PPENT_RST_L (out), A20 TMS (in), A21 TCK (in), AA1 M1 (in), AA3 PBOARDPWRGOOD (in), AA4 MISC_JUMPERS3 (in), AA6 B_MRESET8 (hiz), AA7 I_MPD7 (in), AA8 B_MRESET6 (hiz), AA9 PMAINCLKFAULTA (in), AA10 PBACKCLKFLT_L (io), AA12 PCHASSIS_ID1 (in), AA13 OSRAM_ADD2 (out), AA14 DIN (in), AA15 OSRAM_DAT0 (io), AA17 OSRAM_ADD1 (out), AA22 CCLK (in), AB2 M0 (in), AB3 M2 (in), AB4 PMODULE_ID0 (in), AB5 MISC_JUMPERS0 (in), AB8 PMODULE_ID2 (in), AB9 I_MPD2 (in), AB10 B_MRESET4 (hiz), AB11 I_MPD4 (in), AB12 PMAINCLKFAULTB (in), AB13 PCHASSIS_ID2 (in), AB14 OSRAM_DAT4 (io), AB15 OSRAM_DAT1 (io), AB16 I_PWRGOOD1 (in), AB21 DONE (io), B1 TDI (in), B3 HSWAP_EN (in), B4 UNUSED33, B5 UNUSED34, B6 UNUSED35, B7 UNUSED36, B8 UNUSED37, B9 UNUSED38, B10 UNUSED39, B13 O_CALRM (out), B14 O_NRENA_1 (out), B15 O_NRENA_0 (out), B16 B_CRESET (hiz), B17 B_MRESET2 (hiz), B22 TDO (out), C1 XILINXPROMTDI (hiz), C2 XILINXPROMTCLK (hiz), C3 XILINXPROMTMS (hiz), C4 UNUSED40, C5 UNUSED41, C6 UNUSED42, C12 I_S3OSC (in), C13 B_MRESET12 (hiz), C16 O_TALRM (out), C18 O_PALRM (out), C21 XILINXPROMTDO (in), D14 O_NETREF_0 (out), D15 O_SALRM (out), D19 PRESET_L (in), E13 I_BITS_B (in), E14 I_BITS_A (in), E15 B_MRESET1 (hiz), E16 I_FANFLT (in), E22 B_MRESET3 (hiz), F13 O_NETREF_1 (out), F14 B_MRESET11 (hiz), F21 I_PWRALRM1 (in), G4 UNUSED43, H1 UNUSED44, H2 UNUSED45, H4 UNUSED46, H18 I_PWRALRM0 (in), H19 B_MRESET10 (hiz), J1 UNUSED47, J2 UNUSED48, J4 UNUSED49, J5 UNUSED50, J6 UNUSED51, K5 UNUSED52, K6 UNUSED53, K17 O_BALRM (out), K18 PSLOT_ID2 (in), K19 I_YALRM (in), K20 O_YALRM (out), K21 PSLOT_ID0 (in), K22 PSLOT_ID3 (in), L18 B_MRESET9 (hiz), M17 B_PFLT (io), M18 I_BALRM (in), M20 B_PWRFAIL0 (io), M21 PSLOT_ID1 (in), N5 UNUSED54, N6 UNUSED55, N17 I_P2TFLT (in), N18 PMAINTEMPFAULT (io), N20 B_PWRFAIL1 (io), N21 MISC_JUMPERS1 (in), P1 UNUSED56, P2 UNUSED57, P4 UNUSED58, P5 UNUSED59, P6 OSRAM_RD_L (out), P21 UNUSED60, R1 UNUSED61, R2 UNUSED62, R4 UNUSED63, R5 UNUSED64, T3 UNUSED65, T17 OSRAM_DAT3 (io), T18 I_MPD12 (in), T19 MISC_JUMPERS2 (in), T20 PMAINSYSFAULT (io), T21 I_PWRGOOD0 (in), U5 UNUSED66, U6 I_MPD6 (in), U7 UNUSED67, U9 PMASTERRESET_OUT_L (hiz), U11 I_MPD3 (in), U12 OSRAM_FI_L (out), U13 OSRAM_RST_L (out), U14 OSRAM_DAT5 (out), U16 OSRAM_ADD4 (out), U18 I_FANITP (in), V5 UNUSED68, V6 PMODULE_ID1 (in), V7 I_MPD9 (in), V8 PMAINSYSPWRGD_L (io), V9 I_MPD11 (in), V11 PBOARDTEMPFAULT (in), V13 I_S3TYPE_1 (in), V14 OSRAM_DAT7 (io), V15 PMATRIX_PRES_L (in), V16 OSRAM_DAT2 (io), V19 PMATRIX_RST_L (out), V21 I_S3TYPE_0 (in), W6 I_MPD5 (in), W7 B_MRESET7 (hiz), W8 PCHASSIS_ID0 (in), W9 I_MPD1 (in), W10 I_RALRM (in), W11 PCHASSIS_ID3 (in), W12 INIT_B (out), W13 OSRAM_ADD3 (out), W14 OSRAM_DAT6 (io), Y5 I_MPD10 (in), Y6 PMODULE_ID3 (in), Y7 B_MRESET5 (hiz), Y10 I_MPD8 (in), Y11 PSER_DIN (io), Y13 OSRAM_ADD0 (out), Y17 OSRAM_WR_L (out), Y18 OSRAM_CS_L (out)
part C pins: A1 GND_1 (power), A6 VCCAUX_1 (power), A17 VCCAUX_2 (power), A22 GND_2 (power), AA2 GND_3 (power), AA21 GND_4 (power), AB1 GND_5 (power), AB6 VCCAUX_3 (power), AB17 VCCAUX_4 (power), AB22 GND_6 (power), B2 GND_7 (power), B21 GND_8 (power), C7 UNUSED_81, C8 VCCO_0_1 (power), C9 GND_9 (power), C14 GND_10 (power), C15 VCCO_1_1 (power), F1 VCCAUX_5 (power), F8 VCCO_0_2 (power), F15 VCCO_1_5 (power), F22 VCCAUX_6 (power), G7 VCCINT_1 (power), G8 VCCINT_2 (power), G9 VCCO_0_3 (power), G10 VCCO_0_4 (power), G11 VCCO_0_5 (power), G12 VCCO_1_2 (power), G13 VCCO_1_3 (power), G14 VCCO_1_4 (power), G15 VCCINT_3 (power), G16 VCCINT_4 (power), H3 VCCO_7_1 (power), H6 VCCO_7_2 (power), H7 VCCINT_5 (power), H16 VCCINT_6 (power), H17 VCCO_2_1 (power), H20 VCCO_2_2 (power), J3 GND_11 (power), J7 VCCO_7_3 (power), J9 GND_12 (power), J10 GND_13 (power), J11 GND_14 (power), J12 GND_15 (power), J13 GND_16 (power), J14 GND_17 (power), J16 VCCO_2_3 (power), J20 GND_18 (power), K7 VCCO_7_4 (power), K9 GND_19 (power), K10 GND_20 (power), K11 GND_21 (power), K12 GND_22 (power), K13 GND_23 (power), K14 GND_24 (power), K16 VCCO_2_4 (power), L7 VCCO_7_5 (power), L9 GND_25 (power), L10 GND_26 (power), L11 GND_27 (power), L12 GND_28 (power), L13 GND_29 (power), L14 GND_30 (power), L16 VCCO_2_5 (power), M7 VCCO_6_1 (power), M9 GND_31 (power), M10 GND_32 (power), M11 GND_33 (power), M12 GND_34 (power), M13 GND_35 (power), M14 GND_36 (power), M16 VCCO_3_1 (power), N7 VCCO_6_2 (power), N9 GND_37 (power), N10 GND_38 (power), N11 GND_39 (power), N12 GND_40 (power), N13 GND_41 (power), N14 GND_42 (power), N16 VCCO_3_2 (power), P3 GND_43 (power), P7 VCCO_6_3 (power), P9 GND_44 (power), P10 GND_45 (power), P11 GND_46 (power), P12 GND_47 (power), P13 GND_48 (power), P14 GND_49 (power), P16 VCCO_3_3 (power), P20 GND_50 (power), R3 VCCO_6_4 (power), R6 VCCO_6_5 (power), R7 VCCINT_7 (power), R16 VCCINT_8 (power), R17 VCCO_3_4 (power), R20 VCCO_3_5 (power), T7 VCCINT_9 (power), T8 VCCINT_10 (power), T9 VCCO_5_1 (power), T10 VCCO_5_2 (power), T11 VCCO_5_3 (power), T12 VCCO_4_1 (power), T13 VCCO_4_2 (power), T14 VCCO_4_3 (power), T15 VCCINT_11 (power), T16 VCCINT_12 (power), U1 VCCAUX_7 (power), U8 VCCO_5_4 (power), U15 VCCO_4_4 (power), U22 VCCAUX_8 (power), V17 UNUSED_69, W1 UNUSED_82, W2 UNUSED_70, W3 UNUSED_71, W4 UNUSED_72, W22 UNUSED_74, Y1 UNUSED_75, Y2 UNUSED_76, Y3 UNUSED_77, Y8 VCCO_5_2 (power), Y9 GND_51 (power), Y12 UNUSED_78, Y14 GND_52 (power), Y15 VCCO_4_5 (power), Y20 UNUSED_79, Y21 UNUSED_80
part A text: PHY 1 Interface; PCI BLOCK; PHY 2 Interface; UART Interface; MII 1 Interface; MII 2 Interface
part B text: BITS Clock Signals

## FUSE0603_4A
designator F?, comment 4A  Vendor PN: ERB-RE4R00V
FUSE, 4A, 32V, FAST, 0603; Vendor: PANASONIC; DEVICE: FUSE0603_4A; MFG PART NO: ERB-RE4R00V; MFG: PANASONIC
footprint F0603
pins: 1, 2

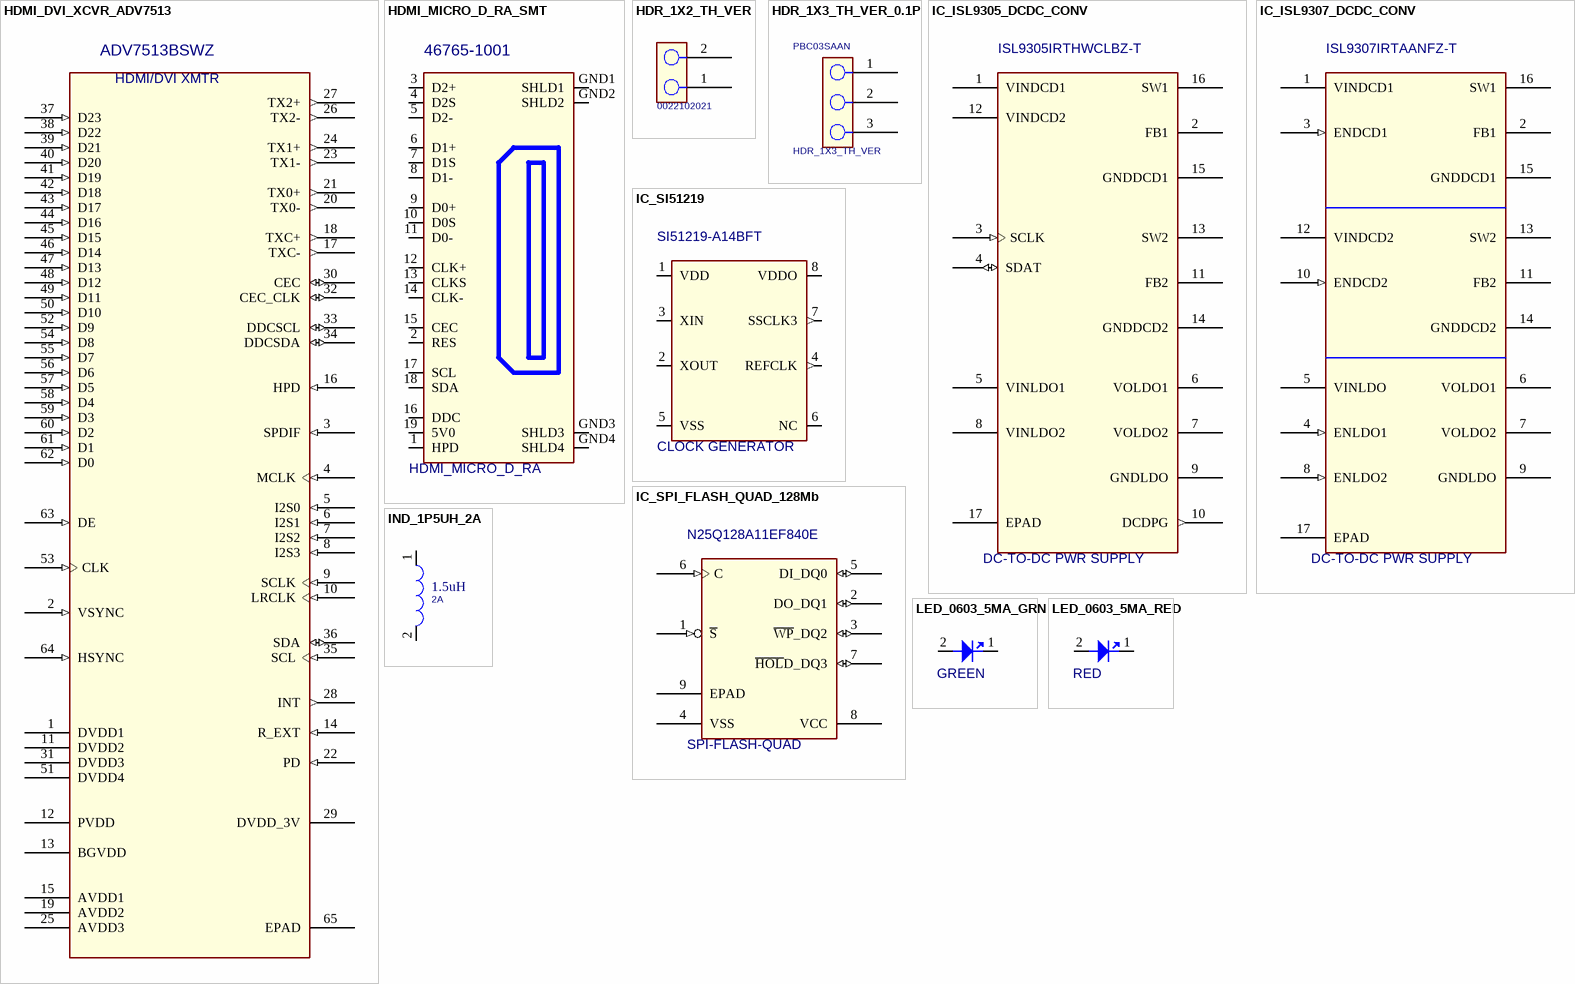
[diagram p9: symbols HDMI_DVI_XCVR_ADV7513 to LED_0603_5MA_RED]

## HDMI_DVI_XCVR_ADV7513
designator U?, comment HDMI/DVI XMTR  Vendor PN: ADV7513BSWZ
IC, HDMI/DVI TRANSMITTER, PQFP64; DEVICE: HDMI_DVI_XCVR_ADV7513; Vendor: ANALOG DEVICES
footprint LQFP64_10SQX1P6MMH_P5MMP
pins: 1 DVDD1 (power), 2 VSYNC (in), 3 SPDIF (in), 4 MCLK (in), 5 I2S0 (in), 6 I2S1 (in), 7 I2S2 (in), 8 I2S3 (in), 9 SCLK (in), 10 LRCLK (in), 11 DVDD2 (power), 12 PVDD (power), 13 BGVDD (power), 14 R_EXT (in), 15 AVDD1 (power), 16 HPD (in), 17 TXC- (out), 18 TXC+ (out), 19 AVDD2 (power), 20 TX0- (out), 21 TX0+ (out), 22 PD (in), 23 TX1- (out), 24 TX1+ (out), 25 AVDD3 (power), 26 TX2- (out), 27 TX2+ (out), 28 INT (out), 29 DVDD_3V (power), 30 CEC (io), 31 DVDD3 (power), 32 CEC_CLK (io), 33 DDCSCL (io), 34 DDCSDA (io), 35 SCL (in), 36 SDA (io), 37 D23 (in), 38 D22 (in), 39 D21 (in), 40 D20 (in), 41 D19 (in), 42 D18 (in), 43 D17 (in), 44 D16 (in), 45 D15 (in), 46 D14 (in), 47 D13 (in), 48 D12 (in), 49 D11 (in), 50 D10 (in), 51 DVDD4 (power), 52 D9 (in), 53 CLK (in), 54 D8 (in), 55 D7 (in), 56 D6 (in), 57 D5 (in), 58 D4 (in), 59 D3 (in), 60 D2 (in), 61 D1 (in), 62 D0 (in), 63 DE (in), 64 HSYNC (in), 65 EPAD (power)